# Altium integrated library Actel RTAX.IntLib: 140 symbols (part 13 of 42)
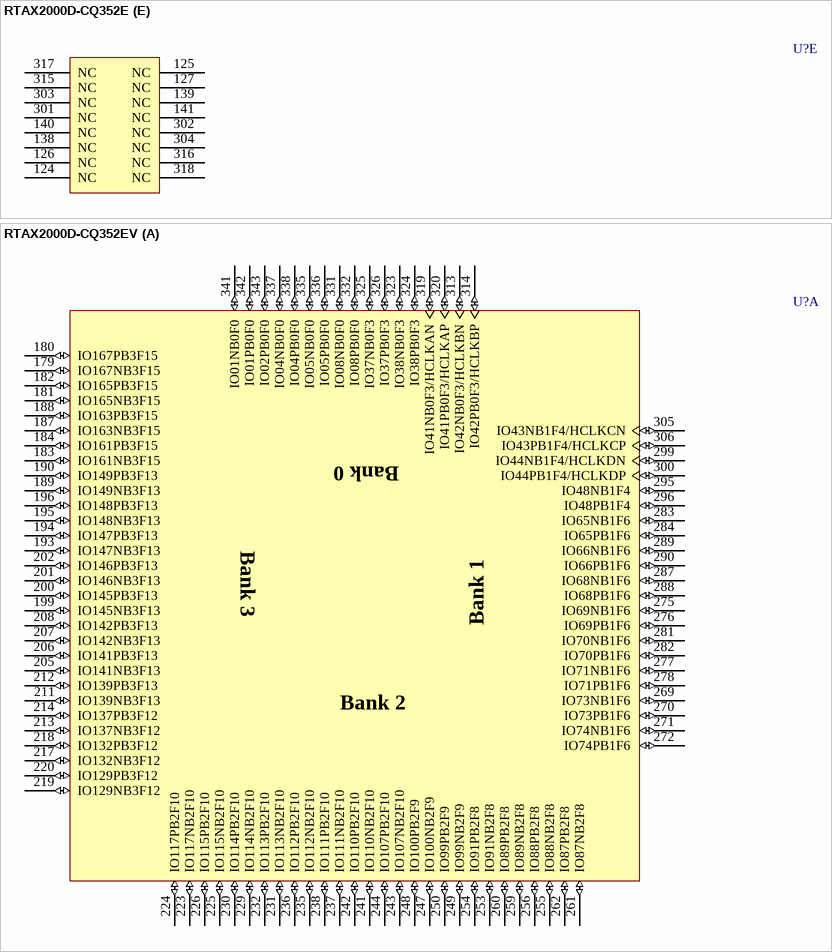
[diagram p411: symbols RTAX2000D-CQ352E to RTAX2000D-CQ352EV]

## RTAX2000D-CQ352E
designator U?
RTAX-DSP RadTolerant FPGA, 2 Million Equivalent System Gates, 352-Pin CQFP, Standard Speed Grade, E-Flow (Space Level Flow); DatasheetVersion: v0.2, Nov-2009; PackageVersion: ver11.2, Nov-2009; PackageReference: CQ352; PackageDescription: 352-Pin Ceramic Quad Flat Pack (CQFP), Cavity Up without Heat Sink; Code_JEDEC: MO-134-AE; ComponentLink1Description: Manufacturer URL; ComponentLink1URL: http://www.actel.com/; ComponentLink2Description: RTAX-S/SL RadTolerant Datasheet; ComponentLink2URL: http://www.actel.com/documents/RTAXS_DS.pdf; ComponentLink3Description: Package Mechanical Drawings; ComponentLink3URL: http://www.actel.com/documents/PckgMechDrwngs.pdf; ComponentLink4Description: RTAX-DSP Documents; ComponentLink4URL: http://www.actel.com/products/milaero/rtaxdsp/docs.aspx
footprint CQ352_N (CQFP, 352-Leads, Body 48x48mm; Pitch 0.5mm, Gullwing Leadform, IPC Medium Density)
footprint CQ352_L (CQFP, 352-Leads, Body 48x48mm; Pitch 0.5mm, Gullwing Leadform, IPC High Density)
footprint CQ352_M (CQFP, 352-Leads, Body 48x48mm; Pitch 0.5mm, Gullwing Leadform, IPC Low Density)
part A pins: 179 IO167NB3F15 (io), 180 IO167PB3F15 (io), 181 IO165NB3F15 (io), 182 IO165PB3F15 (io), 183 IO161NB3F15 (io), 184 IO161PB3F15 (io), 187 IO163NB3F15 (io), 188 IO163PB3F15 (io), 189 IO149NB3F13 (io), 190 IO149PB3F13 (io), 193 IO147NB3F13 (io), 194 IO147PB3F13 (io), 195 IO148NB3F13 (io), 196 IO148PB3F13 (io), 199 IO145NB3F13 (io), 200 IO145PB3F13 (io), 201 IO146NB3F13 (io), 202 IO146PB3F13 (io), 205 IO141NB3F13 (io), 206 IO141PB3F13 (io), 207 IO142NB3F13 (io), 208 IO142PB3F13 (io), 211 IO139NB3F13 (io), 212 IO139PB3F13 (io), 213 IO137NB3F12 (io), 214 IO137PB3F12 (io), 217 IO132NB3F12 (io), 218 IO132PB3F12 (io), 219 IO129NB3F12 (io), 220 IO129PB3F12 (io), 223 IO117NB2F10 (io), 224 IO117PB2F10 (io), 225 IO115NB2F10 (io), 226 IO115PB2F10 (io), 229 IO114NB2F10 (io), 230 IO114PB2F10 (io), 231 IO113NB2F10 (io), 232 IO113PB2F10 (io), 235 IO112NB2F10 (io), 236 IO112PB2F10 (io), 237 IO111NB2F10 (io), 238 IO111PB2F10 (io), 241 IO110NB2F10 (io), 242 IO110PB2F10 (io), 243 IO107NB2F10 (io), 244 IO107PB2F10 (io), 247 IO100NB2F9 (io), 248 IO100PB2F9 (io), 249 IO99NB2F9 (io), 250 IO99PB2F9 (io), 253 IO91NB2F8 (io), 254 IO91PB2F8 (io), 255 IO88NB2F8 (io), 256 IO88PB2F8 (io), 259 IO89NB2F8 (io), 260 IO89PB2F8 (io), 261 IO87NB2F8 (io), 262 IO87PB2F8 (io), 269 IO73NB1F6 (io), 270 IO73PB1F6 (io), 271 IO74NB1F6 (io), 272 IO74PB1F6 (io), 275 IO69NB1F6 (io), 276 IO69PB1F6 (io), 277 IO71NB1F6 (io), 278 IO71PB1F6 (io), 281 IO70NB1F6 (io), 282 IO70PB1F6 (io), 283 IO65NB1F6 (io), 284 IO65PB1F6 (io), 287 IO68NB1F6 (io), 288 IO68PB1F6 (io), 289 IO66NB1F6 (io), 290 IO66PB1F6 (io), 295 IO48NB1F4 (io), 296 IO48PB1F4 (io), 299 IO44NB1F4/HCLKDN (io), 300 IO44PB1F4/HCLKDP (io), 305 IO43NB1F4/HCLKCN (io), 306 IO43PB1F4/HCLKCP (io), 313 IO42NB0F3/HCLKBN (io), 314 IO42PB0F3/HCLKBP (io), 319 IO41NB0F3/HCLKAN (io), 320 IO41PB0F3/HCLKAP (io), 323 IO38NB0F3 (io), 324 IO38PB0F3 (io), 325 IO37NB0F3 (io), 326 IO37PB0F3 (io), 331 IO08NB0F0 (io), 332 IO08PB0F0 (io), 335 IO05NB0F0 (io), 336 IO05PB0F0 (io), 337 IO04NB0F0 (io), 338 IO04PB0F0 (io), 341 IO01NB0F0 (io), 342 IO01PB0F0 (io), 343 IO02PB0F0 (io)
part B pins: 4 IO341NB7F31 (io), 5 IO341PB7F31 (io), 6 IO338NB7F31 (io), 7 IO338PB7F31 (io), 10 IO334NB7F31 (io), 11 IO334PB7F31 (io), 12 IO335NB7F31 (io), 13 IO335PB7F31 (io), 16 IO320NB7F29 (io), 17 IO320PB7F29 (io), 18 IO318NB7F29 (io), 19 IO318PB7F29 (io), 22 IO316NB7F29 (io), 23 IO316PB7F29 (io), 24 IO317NB7F29 (io), 25 IO317PB7F29 (io), 28 IO312NB7F29 (io), 29 IO312PB7F29 (io), 30 IO315NB7F29 (io), 31 IO315PB7F29 (io), 34 IO310NB7F29 (io), 35 IO310PB7F29 (io), 36 IO311NB7F29 (io), 37 IO311PB7F29 (io), 40 IO303NB7F28 (io), 41 IO303PB7F28 (io), 42 IO300NB7F28 (io), 43 IO300PB7F28 (io), 46 IO296NB6F27 (io), 47 IO296PB6F27 (io), 48 IO294NB6F27 (io), 49 IO294PB6F27 (io), 52 IO287NB6F26 (io), 53 IO287PB6F26 (io), 54 IO286NB6F26 (io), 55 IO286PB6F26 (io), 58 IO285NB6F26 (io), 59 IO285PB6F26 (io), 60 IO284NB6F26 (io), 61 IO284PB6F26 (io), 64 IO282NB6F26 (io), 65 IO282PB6F26 (io), 66 IO281NB6F26 (io), 67 IO281PB6F26 (io), 70 IO280NB6F26 (io), 71 IO280PB6F26 (io), 72 IO279NB6F26 (io), 73 IO279PB6F26 (io), 76 IO265NB6F24 (io), 77 IO265PB6F24 (io), 78 IO262NB6F24 (io), 79 IO262PB6F24 (io), 82 IO261NB6F24 (io), 83 IO261PB6F24 (io), 84 IO258NB6F24 (io), 85 IO258PB6F24 (io), 86 IO257PB6F24 (io), 92 IO244NB5F22 (io), 93 IO244PB5F22 (io), 94 IO242NB5F22 (io), 95 IO242PB5F22 (io), 98 IO243NB5F22 (io), 99 IO243PB5F22 (io), 100 IO240NB5F22 (io), 101 IO240PB5F22 (io), 104 IO238NB5F22 (io), 105 IO238PB5F22 (io), 106 IO239NB5F22 (io), 107 IO239PB5F22 (io), 110 IO236NB5F22 (io), 111 IO236PB5F22 (io), 112 IO237NB5F22 (io), 113 IO237PB5F22 (io), 118 IO217NB5F20 (io), 119 IO217PB5F20 (io), 122 IO215NB5F20/CLKHN (io), 123 IO215PB5F20/CLKHP (io), 128 IO214NB5F20/CLKGN (io), 129 IO214PB5F20/CLKGP (io), 136 IO213NB4F19/CLKFN (io), 137 IO213PB4F19/CLKFP (io), 142 IO212NB4F19/CLKEN (io), 143 IO212PB4F19/CLKEP (io), 146 IO207NB4F19 (io), 147 IO207PB4F19 (io), 152 IO192NB4F17 (io), 153 IO192PB4F17 (io), 154 IO191NB4F17 (io), 155 IO191PB4F17 (io), 158 IO190NB4F17 (io), 159 IO190PB4F17 (io), 160 IO185NB4F17 (io), 161 IO185PB4F17 (io), 164 IO184NB4F17 (io), 165 IO184PB4F17 (io), 166 IO183NB4F17 (io), 167 IO183PB4F17 (io), 170 IO182NB4F17 (io), 171 IO182PB4F17 (io), 172 IO181NB4F17 (io), 173 IO181PB4F17 (io)
part C pins: 2 VCCDA (power), 3 VCCA (power), 8 VCCIB7 (power), 14 VCCA (power), 20 VCCIB7 (power), 26 VCCIB7 (power), 32 VCCA (power), 38 VCCIB7 (power), 44 VCCDA (power), 50 VCCIB6 (power), 56 VCCA (power), 62 VCCIB6 (power), 68 VCCIB6 (power), 74 VCCA (power), 80 VCCIB6 (power), 87 VCCA (power), 90 VCCDA (power), 91 VCCDA (power), 96 VCCIB5 (power), 102 VCCA (power), 108 VCCIB5 (power), 114 VCCA (power), 116 VCCDA (power), 117 VCCDA (power), 120 VCCIB5 (power), 130 VCCDA (power), 131 VCCDA (power), 132 VCCDA (power), 134 PRD (out), 135 PRC (out), 144 VCCIB4 (power), 148 VCCDA (power), 149 VCCDA (power), 150 VCCA (power), 156 VCCIB4 (power), 162 VCCA (power), 168 VCCIB4 (power), 174 VCCDA (power), 175 VCCA (power), 178 VCCDA (power), 185 VCCIB3 (power), 191 VCCA (power), 197 VCCIB3 (power), 203 VCCIB3 (power), 209 VCCA (power), 215 VCCIB3 (power), 221 VCCDA (power), 227 VCCIB2 (power), 233 VCCA (power), 239 VCCIB2 (power), 245 VCCIB2 (power), 251 VCCA (power), 257 VCCIB2 (power), 263 VCCA (power), 266 VCCDA (power), 267 VPUMP (power), 268 VCCDA (power), 273 VCCIB1 (power), 279 VCCA (power), 285 VCCIB1 (power), 291 VCCA (power), 293 VCCDA (power), 294 VCCDA (power), 297 VCCIB1 (power), 307 VCCDA (power), 308 VCCDA (power), 309 VCCDA (power), 311 PRB (out), 312 PRA (out), 321 VCCIB0 (power), 327 VCCDA (power), 328 VCCDA (power), 329 VCCA (power), 333 VCCIB0 (power), 339 VCCA (power), 344 VCCIB0 (power), 346 VCCDA (power), 347 TDO (hiz), 348 TDI (in), 349 TCK (in), 350 TMS (in), 351 ~{TRST} (in)
part D pins: 1 GND (power), 9 GND (power), 15 GND (power), 21 GND (power), 27 GND (power), 33 GND (power), 39 GND (power), 45 GND (power), 51 GND (power), 57 GND (power), 63 GND (power), 69 GND (power), 75 GND (power), 81 GND (power), 88 GND (power), 89 GND (power), 97 GND (power), 103 GND (power), 109 GND (power), 115 GND (power), 121 GND (power), 133 GND (power), 145 GND (power), 151 GND (power), 157 GND (power), 163 GND (power), 169 GND (power), 176 GND (power), 177 GND (power), 186 GND (power), 192 GND (power), 198 GND (power), 204 GND (power), 210 GND (power), 216 GND (power), 222 GND (power), 228 GND (power), 234 GND (power), 240 GND (power), 246 GND (power), 252 GND (power), 258 GND (power), 264 GND (power), 265 GND (power), 274 GND (power), 280 GND (power), 286 GND (power), 292 GND (power), 298 GND (power), 310 GND (power), 322 GND (power), 330 GND (power), 334 GND (power), 340 GND (power), 345 GND (power), 352 GND (power)
part E pins: 124 NC, 125 NC, 126 NC, 127 NC, 138 NC, 139 NC, 140 NC, 141 NC, 301 NC, 302 NC, 303 NC, 304 NC, 315 NC, 316 NC, 317 NC, 318 NC
part A text: Bank 0; Bank 3; Bank 1; Bank 2
part B text: Bank 4; Bank 7; Bank 5; Bank 6

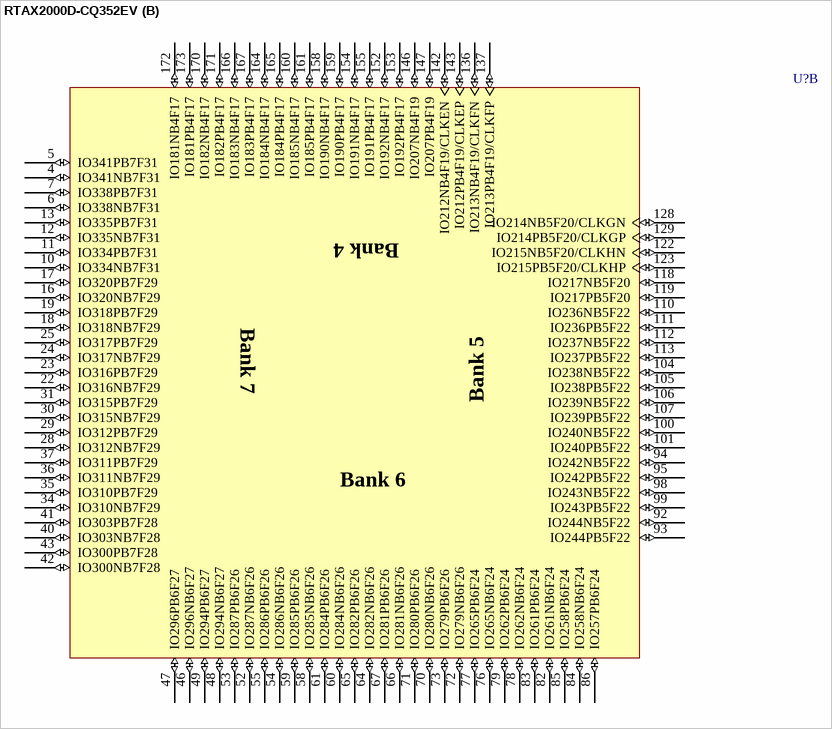
[diagram p127: symbol RTAX2000D-CQ352EV]

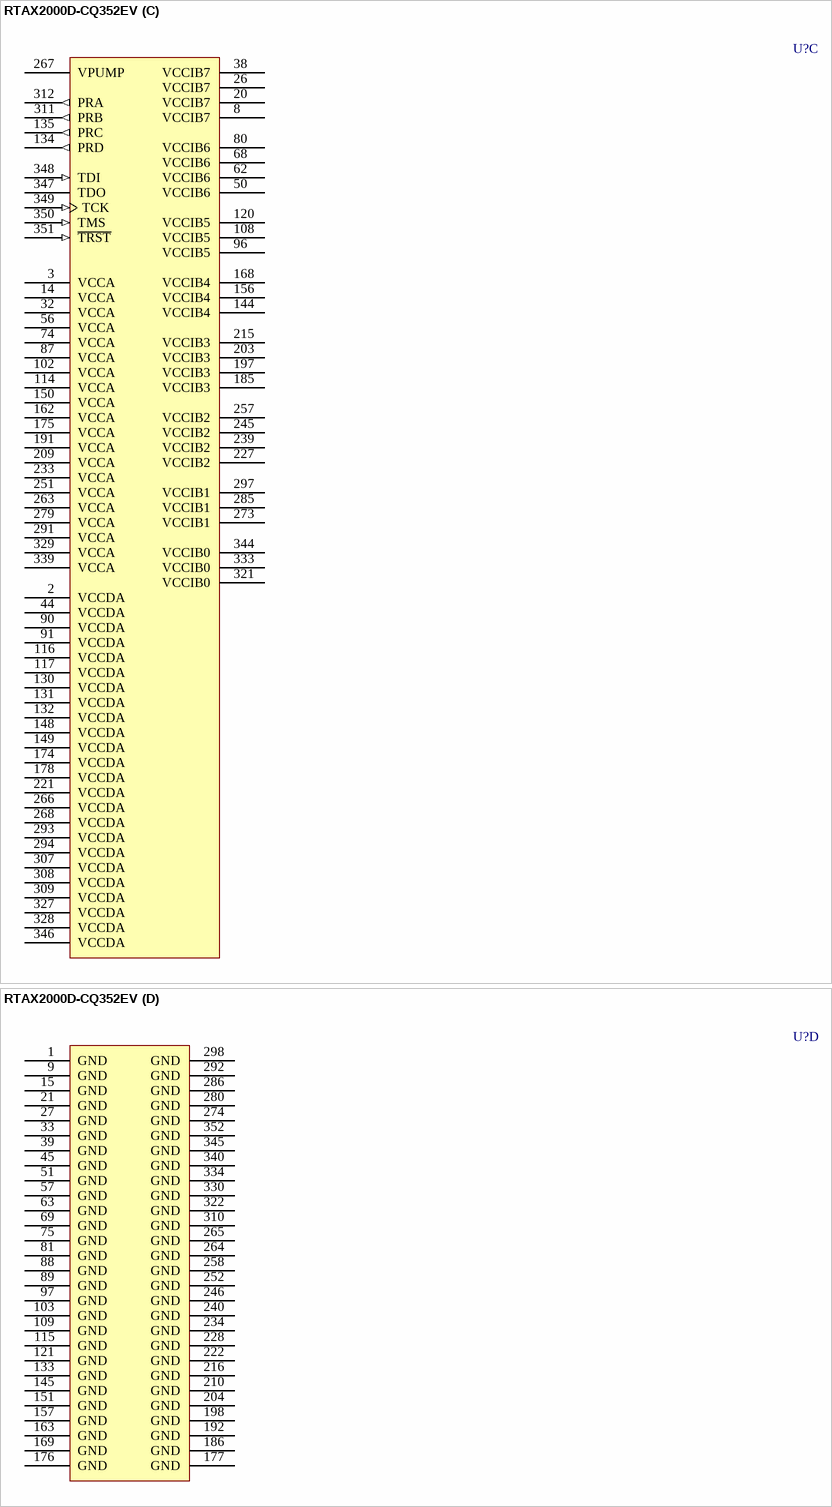
[diagram p128: symbol RTAX2000D-CQ352EV]

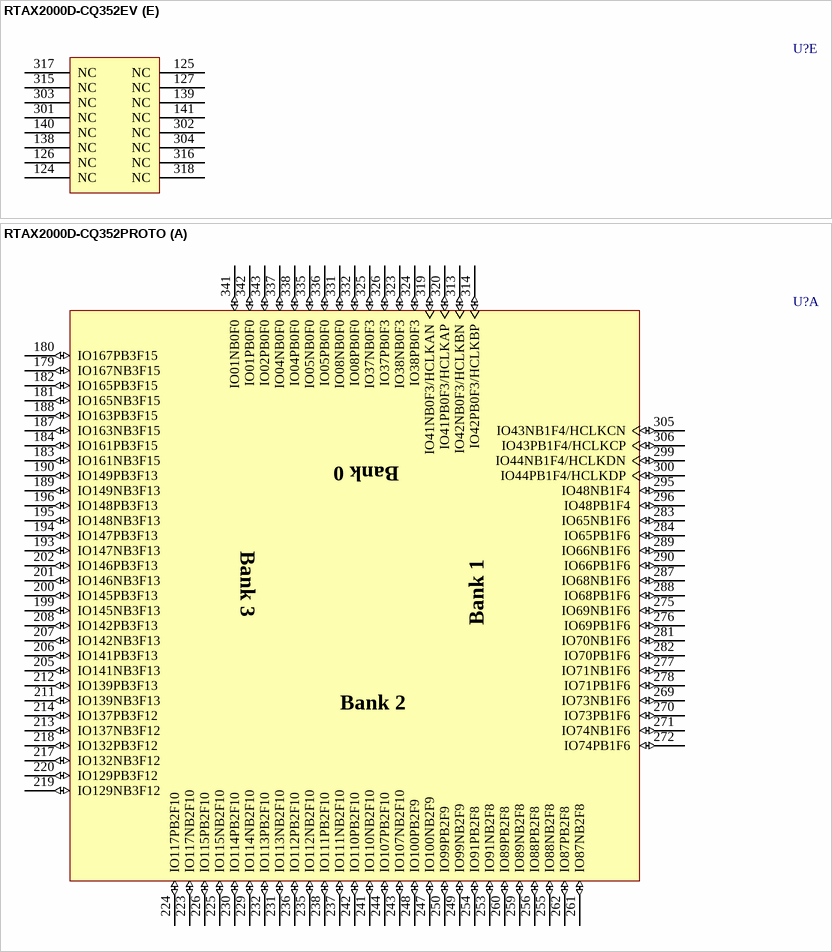
[diagram p129: symbols RTAX2000D-CQ352EV to RTAX2000D-CQ352PROTO]

## RTAX2000D-CQ352EV
designator U?
RTAX-DSP RadTolerant FPGA, 2 Million Equivalent System Gates, 352-Pin CQFP, Standard Speed Grade, Class V; DatasheetVersion: v0.2, Nov-2009; PackageVersion: ver11.2, Nov-2009; PackageReference: CQ352; PackageDescription: 352-Pin Ceramic Quad Flat Pack (CQFP), Cavity Up without Heat Sink; Code_JEDEC: MO-134-AE; ComponentLink1Description: Manufacturer URL; ComponentLink1URL: http://www.actel.com/; ComponentLink2Description: RTAX-S/SL RadTolerant Datasheet; ComponentLink2URL: http://www.actel.com/documents/RTAXS_DS.pdf; ComponentLink3Description: Package Mechanical Drawings; ComponentLink3URL: http://www.actel.com/documents/PckgMechDrwngs.pdf; ComponentLink4Description: RTAX-DSP Documents; ComponentLink4URL: http://www.actel.com/products/milaero/rtaxdsp/docs.aspx
footprint CQ352_N (CQFP, 352-Leads, Body 48x48mm; Pitch 0.5mm, Gullwing Leadform, IPC Medium Density)
footprint CQ352_L (CQFP, 352-Leads, Body 48x48mm; Pitch 0.5mm, Gullwing Leadform, IPC High Density)
footprint CQ352_M (CQFP, 352-Leads, Body 48x48mm; Pitch 0.5mm, Gullwing Leadform, IPC Low Density)
part A pins: 179 IO167NB3F15 (io), 180 IO167PB3F15 (io), 181 IO165NB3F15 (io), 182 IO165PB3F15 (io), 183 IO161NB3F15 (io), 184 IO161PB3F15 (io), 187 IO163NB3F15 (io), 188 IO163PB3F15 (io), 189 IO149NB3F13 (io), 190 IO149PB3F13 (io), 193 IO147NB3F13 (io), 194 IO147PB3F13 (io), 195 IO148NB3F13 (io), 196 IO148PB3F13 (io), 199 IO145NB3F13 (io), 200 IO145PB3F13 (io), 201 IO146NB3F13 (io), 202 IO146PB3F13 (io), 205 IO141NB3F13 (io), 206 IO141PB3F13 (io), 207 IO142NB3F13 (io), 208 IO142PB3F13 (io), 211 IO139NB3F13 (io), 212 IO139PB3F13 (io), 213 IO137NB3F12 (io), 214 IO137PB3F12 (io), 217 IO132NB3F12 (io), 218 IO132PB3F12 (io), 219 IO129NB3F12 (io), 220 IO129PB3F12 (io), 223 IO117NB2F10 (io), 224 IO117PB2F10 (io), 225 IO115NB2F10 (io), 226 IO115PB2F10 (io), 229 IO114NB2F10 (io), 230 IO114PB2F10 (io), 231 IO113NB2F10 (io), 232 IO113PB2F10 (io), 235 IO112NB2F10 (io), 236 IO112PB2F10 (io), 237 IO111NB2F10 (io), 238 IO111PB2F10 (io), 241 IO110NB2F10 (io), 242 IO110PB2F10 (io), 243 IO107NB2F10 (io), 244 IO107PB2F10 (io), 247 IO100NB2F9 (io), 248 IO100PB2F9 (io), 249 IO99NB2F9 (io), 250 IO99PB2F9 (io), 253 IO91NB2F8 (io), 254 IO91PB2F8 (io), 255 IO88NB2F8 (io), 256 IO88PB2F8 (io), 259 IO89NB2F8 (io), 260 IO89PB2F8 (io), 261 IO87NB2F8 (io), 262 IO87PB2F8 (io), 269 IO73NB1F6 (io), 270 IO73PB1F6 (io), 271 IO74NB1F6 (io), 272 IO74PB1F6 (io), 275 IO69NB1F6 (io), 276 IO69PB1F6 (io), 277 IO71NB1F6 (io), 278 IO71PB1F6 (io), 281 IO70NB1F6 (io), 282 IO70PB1F6 (io), 283 IO65NB1F6 (io), 284 IO65PB1F6 (io), 287 IO68NB1F6 (io), 288 IO68PB1F6 (io), 289 IO66NB1F6 (io), 290 IO66PB1F6 (io), 295 IO48NB1F4 (io), 296 IO48PB1F4 (io), 299 IO44NB1F4/HCLKDN (io), 300 IO44PB1F4/HCLKDP (io), 305 IO43NB1F4/HCLKCN (io), 306 IO43PB1F4/HCLKCP (io), 313 IO42NB0F3/HCLKBN (io), 314 IO42PB0F3/HCLKBP (io), 319 IO41NB0F3/HCLKAN (io), 320 IO41PB0F3/HCLKAP (io), 323 IO38NB0F3 (io), 324 IO38PB0F3 (io), 325 IO37NB0F3 (io), 326 IO37PB0F3 (io), 331 IO08NB0F0 (io), 332 IO08PB0F0 (io), 335 IO05NB0F0 (io), 336 IO05PB0F0 (io), 337 IO04NB0F0 (io), 338 IO04PB0F0 (io), 341 IO01NB0F0 (io), 342 IO01PB0F0 (io), 343 IO02PB0F0 (io)
part B pins: 4 IO341NB7F31 (io), 5 IO341PB7F31 (io), 6 IO338NB7F31 (io), 7 IO338PB7F31 (io), 10 IO334NB7F31 (io), 11 IO334PB7F31 (io), 12 IO335NB7F31 (io), 13 IO335PB7F31 (io), 16 IO320NB7F29 (io), 17 IO320PB7F29 (io), 18 IO318NB7F29 (io), 19 IO318PB7F29 (io), 22 IO316NB7F29 (io), 23 IO316PB7F29 (io), 24 IO317NB7F29 (io), 25 IO317PB7F29 (io), 28 IO312NB7F29 (io), 29 IO312PB7F29 (io), 30 IO315NB7F29 (io), 31 IO315PB7F29 (io), 34 IO310NB7F29 (io), 35 IO310PB7F29 (io), 36 IO311NB7F29 (io), 37 IO311PB7F29 (io), 40 IO303NB7F28 (io), 41 IO303PB7F28 (io), 42 IO300NB7F28 (io), 43 IO300PB7F28 (io), 46 IO296NB6F27 (io), 47 IO296PB6F27 (io), 48 IO294NB6F27 (io), 49 IO294PB6F27 (io), 52 IO287NB6F26 (io), 53 IO287PB6F26 (io), 54 IO286NB6F26 (io), 55 IO286PB6F26 (io), 58 IO285NB6F26 (io), 59 IO285PB6F26 (io), 60 IO284NB6F26 (io), 61 IO284PB6F26 (io), 64 IO282NB6F26 (io), 65 IO282PB6F26 (io), 66 IO281NB6F26 (io), 67 IO281PB6F26 (io), 70 IO280NB6F26 (io), 71 IO280PB6F26 (io), 72 IO279NB6F26 (io), 73 IO279PB6F26 (io), 76 IO265NB6F24 (io), 77 IO265PB6F24 (io), 78 IO262NB6F24 (io), 79 IO262PB6F24 (io), 82 IO261NB6F24 (io), 83 IO261PB6F24 (io), 84 IO258NB6F24 (io), 85 IO258PB6F24 (io), 86 IO257PB6F24 (io), 92 IO244NB5F22 (io), 93 IO244PB5F22 (io), 94 IO242NB5F22 (io), 95 IO242PB5F22 (io), 98 IO243NB5F22 (io), 99 IO243PB5F22 (io), 100 IO240NB5F22 (io), 101 IO240PB5F22 (io), 104 IO238NB5F22 (io), 105 IO238PB5F22 (io), 106 IO239NB5F22 (io), 107 IO239PB5F22 (io), 110 IO236NB5F22 (io), 111 IO236PB5F22 (io), 112 IO237NB5F22 (io), 113 IO237PB5F22 (io), 118 IO217NB5F20 (io), 119 IO217PB5F20 (io), 122 IO215NB5F20/CLKHN (io), 123 IO215PB5F20/CLKHP (io), 128 IO214NB5F20/CLKGN (io), 129 IO214PB5F20/CLKGP (io), 136 IO213NB4F19/CLKFN (io), 137 IO213PB4F19/CLKFP (io), 142 IO212NB4F19/CLKEN (io), 143 IO212PB4F19/CLKEP (io), 146 IO207NB4F19 (io), 147 IO207PB4F19 (io), 152 IO192NB4F17 (io), 153 IO192PB4F17 (io), 154 IO191NB4F17 (io), 155 IO191PB4F17 (io), 158 IO190NB4F17 (io), 159 IO190PB4F17 (io), 160 IO185NB4F17 (io), 161 IO185PB4F17 (io), 164 IO184NB4F17 (io), 165 IO184PB4F17 (io), 166 IO183NB4F17 (io), 167 IO183PB4F17 (io), 170 IO182NB4F17 (io), 171 IO182PB4F17 (io), 172 IO181NB4F17 (io), 173 IO181PB4F17 (io)
part C pins: 2 VCCDA (power), 3 VCCA (power), 8 VCCIB7 (power), 14 VCCA (power), 20 VCCIB7 (power), 26 VCCIB7 (power), 32 VCCA (power), 38 VCCIB7 (power), 44 VCCDA (power), 50 VCCIB6 (power), 56 VCCA (power), 62 VCCIB6 (power), 68 VCCIB6 (power), 74 VCCA (power), 80 VCCIB6 (power), 87 VCCA (power), 90 VCCDA (power), 91 VCCDA (power), 96 VCCIB5 (power), 102 VCCA (power), 108 VCCIB5 (power), 114 VCCA (power), 116 VCCDA (power), 117 VCCDA (power), 120 VCCIB5 (power), 130 VCCDA (power), 131 VCCDA (power), 132 VCCDA (power), 134 PRD (out), 135 PRC (out), 144 VCCIB4 (power), 148 VCCDA (power), 149 VCCDA (power), 150 VCCA (power), 156 VCCIB4 (power), 162 VCCA (power), 168 VCCIB4 (power), 174 VCCDA (power), 175 VCCA (power), 178 VCCDA (power), 185 VCCIB3 (power), 191 VCCA (power), 197 VCCIB3 (power), 203 VCCIB3 (power), 209 VCCA (power), 215 VCCIB3 (power), 221 VCCDA (power), 227 VCCIB2 (power), 233 VCCA (power), 239 VCCIB2 (power), 245 VCCIB2 (power), 251 VCCA (power), 257 VCCIB2 (power), 263 VCCA (power), 266 VCCDA (power), 267 VPUMP (power), 268 VCCDA (power), 273 VCCIB1 (power), 279 VCCA (power), 285 VCCIB1 (power), 291 VCCA (power), 293 VCCDA (power), 294 VCCDA (power), 297 VCCIB1 (power), 307 VCCDA (power), 308 VCCDA (power), 309 VCCDA (power), 311 PRB (out), 312 PRA (out), 321 VCCIB0 (power), 327 VCCDA (power), 328 VCCDA (power), 329 VCCA (power), 333 VCCIB0 (power), 339 VCCA (power), 344 VCCIB0 (power), 346 VCCDA (power), 347 TDO (hiz), 348 TDI (in), 349 TCK (in), 350 TMS (in), 351 ~{TRST} (in)
part D pins: 1 GND (power), 9 GND (power), 15 GND (power), 21 GND (power), 27 GND (power), 33 GND (power), 39 GND (power), 45 GND (power), 51 GND (power), 57 GND (power), 63 GND (power), 69 GND (power), 75 GND (power), 81 GND (power), 88 GND (power), 89 GND (power), 97 GND (power), 103 GND (power), 109 GND (power), 115 GND (power), 121 GND (power), 133 GND (power), 145 GND (power), 151 GND (power), 157 GND (power), 163 GND (power), 169 GND (power), 176 GND (power), 177 GND (power), 186 GND (power), 192 GND (power), 198 GND (power), 204 GND (power), 210 GND (power), 216 GND (power), 222 GND (power), 228 GND (power), 234 GND (power), 240 GND (power), 246 GND (power), 252 GND (power), 258 GND (power), 264 GND (power), 265 GND (power), 274 GND (power), 280 GND (power), 286 GND (power), 292 GND (power), 298 GND (power), 310 GND (power), 322 GND (power), 330 GND (power), 334 GND (power), 340 GND (power), 345 GND (power), 352 GND (power)
part E pins: 124 NC, 125 NC, 126 NC, 127 NC, 138 NC, 139 NC, 140 NC, 141 NC, 301 NC, 302 NC, 303 NC, 304 NC, 315 NC, 316 NC, 317 NC, 318 NC
part A text: Bank 0; Bank 3; Bank 1; Bank 2
part B text: Bank 4; Bank 7; Bank 5; Bank 6

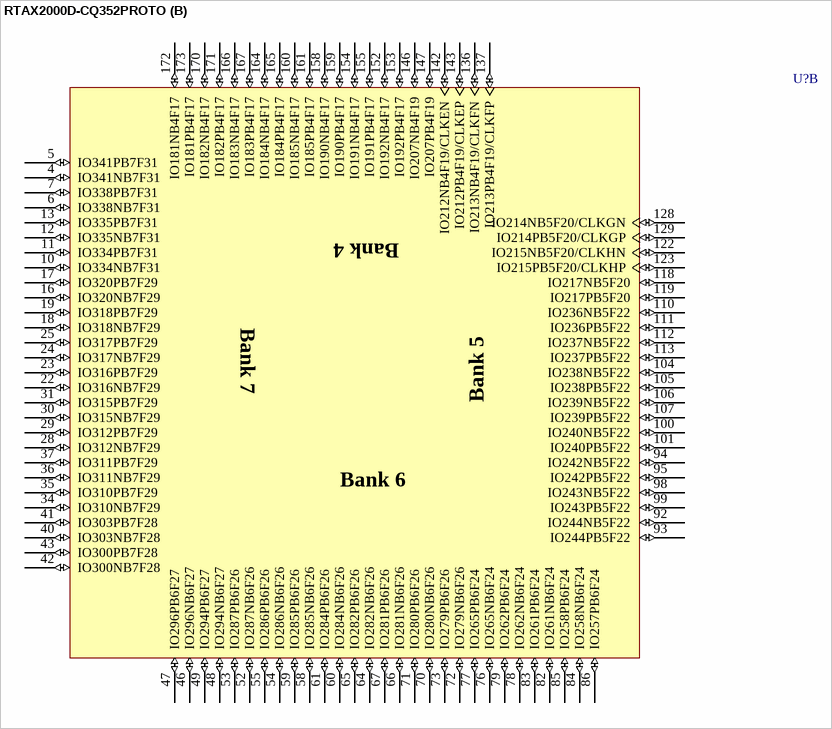
[diagram p130: symbol RTAX2000D-CQ352PROTO]

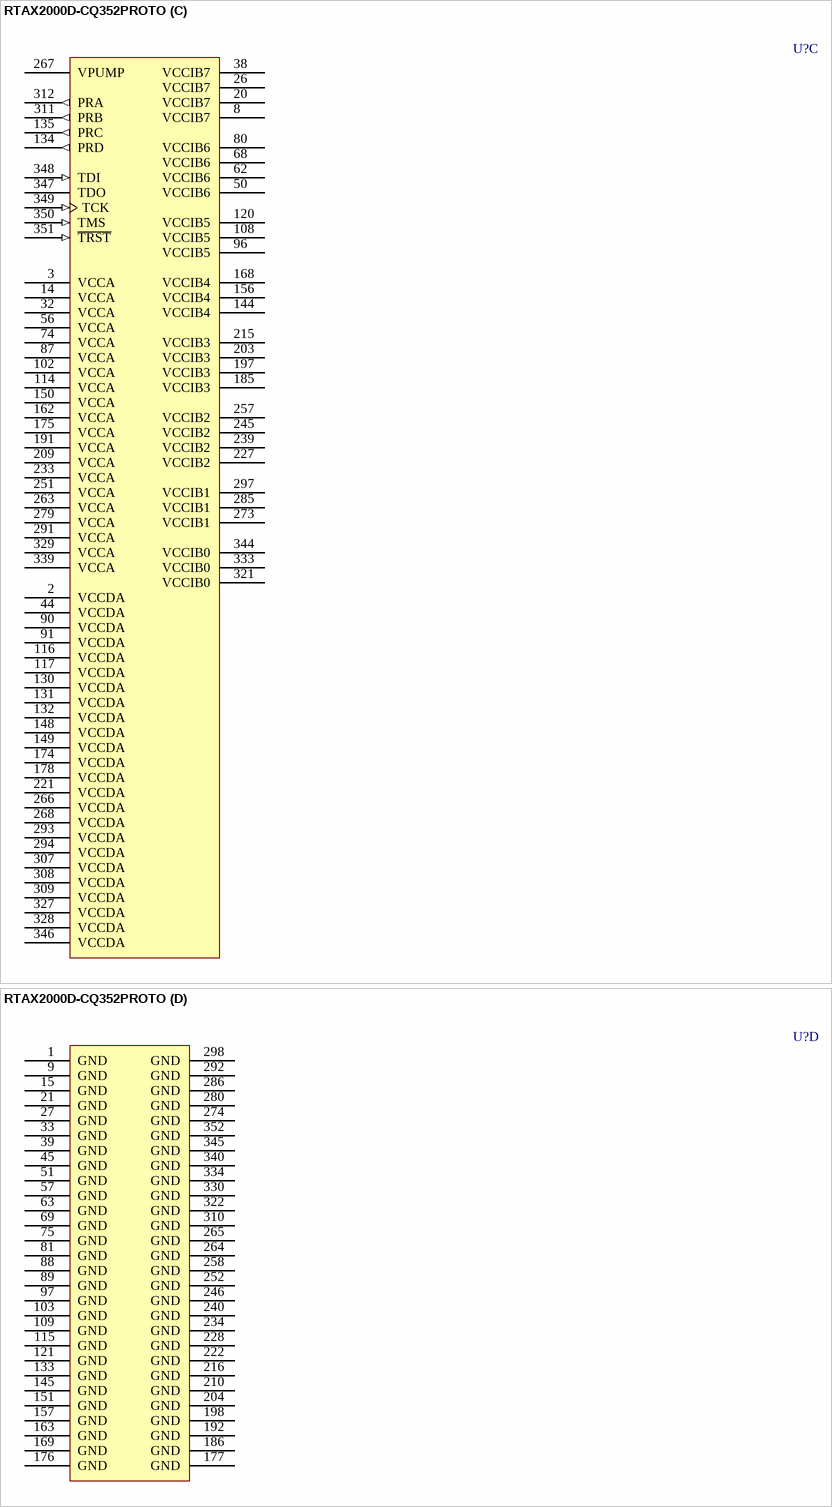
[diagram p131: symbol RTAX2000D-CQ352PROTO]

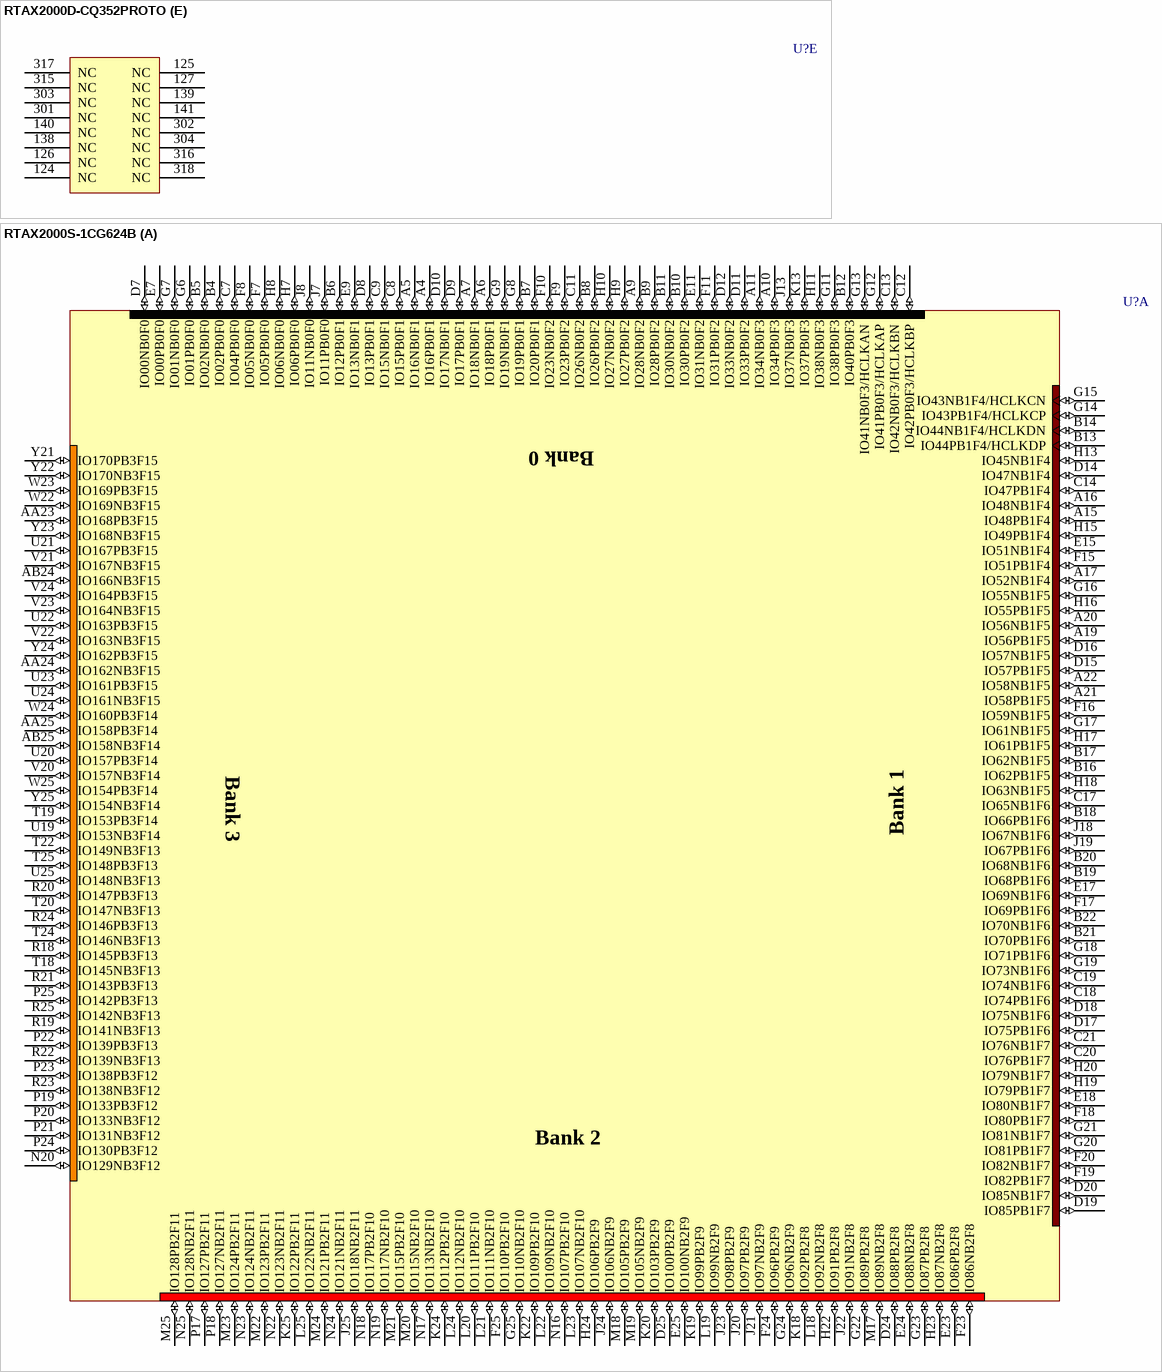
[diagram p132: symbols RTAX2000D-CQ352PROTO to RTAX2000S-1CG624B]

## RTAX2000D-CQ352PROTO
designator U?
RTAX-DSP RadTolerant FPGA, 2 Million Equivalent System Gates, 352-Pin CQFP, Standard Speed Grade, Prototype Unit; DatasheetVersion: v0.2, Nov-2009; PackageVersion: ver11.2, Nov-2009; PackageReference: CQ352; PackageDescription: 352-Pin Ceramic Quad Flat Pack (CQFP), Cavity Up without Heat Sink; Code_JEDEC: MO-134-AE; ComponentLink1Description: Manufacturer URL; ComponentLink1URL: http://www.actel.com/; ComponentLink2Description: RTAX-S/SL RadTolerant Datasheet; ComponentLink2URL: http://www.actel.com/documents/RTAXS_DS.pdf; ComponentLink3Description: Package Mechanical Drawings; ComponentLink3URL: http://www.actel.com/documents/PckgMechDrwngs.pdf; ComponentLink4Description: RTAX-DSP Documents; ComponentLink4URL: http://www.actel.com/products/milaero/rtaxdsp/docs.aspx
footprint CQ352_N (CQFP, 352-Leads, Body 48x48mm; Pitch 0.5mm, Gullwing Leadform, IPC Medium Density)
footprint CQ352_L (CQFP, 352-Leads, Body 48x48mm; Pitch 0.5mm, Gullwing Leadform, IPC High Density)
footprint CQ352_M (CQFP, 352-Leads, Body 48x48mm; Pitch 0.5mm, Gullwing Leadform, IPC Low Density)
part A pins: 179 IO167NB3F15 (io), 180 IO167PB3F15 (io), 181 IO165NB3F15 (io), 182 IO165PB3F15 (io), 183 IO161NB3F15 (io), 184 IO161PB3F15 (io), 187 IO163NB3F15 (io), 188 IO163PB3F15 (io), 189 IO149NB3F13 (io), 190 IO149PB3F13 (io), 193 IO147NB3F13 (io), 194 IO147PB3F13 (io), 195 IO148NB3F13 (io), 196 IO148PB3F13 (io), 199 IO145NB3F13 (io), 200 IO145PB3F13 (io), 201 IO146NB3F13 (io), 202 IO146PB3F13 (io), 205 IO141NB3F13 (io), 206 IO141PB3F13 (io), 207 IO142NB3F13 (io), 208 IO142PB3F13 (io), 211 IO139NB3F13 (io), 212 IO139PB3F13 (io), 213 IO137NB3F12 (io), 214 IO137PB3F12 (io), 217 IO132NB3F12 (io), 218 IO132PB3F12 (io), 219 IO129NB3F12 (io), 220 IO129PB3F12 (io), 223 IO117NB2F10 (io), 224 IO117PB2F10 (io), 225 IO115NB2F10 (io), 226 IO115PB2F10 (io), 229 IO114NB2F10 (io), 230 IO114PB2F10 (io), 231 IO113NB2F10 (io), 232 IO113PB2F10 (io), 235 IO112NB2F10 (io), 236 IO112PB2F10 (io), 237 IO111NB2F10 (io), 238 IO111PB2F10 (io), 241 IO110NB2F10 (io), 242 IO110PB2F10 (io), 243 IO107NB2F10 (io), 244 IO107PB2F10 (io), 247 IO100NB2F9 (io), 248 IO100PB2F9 (io), 249 IO99NB2F9 (io), 250 IO99PB2F9 (io), 253 IO91NB2F8 (io), 254 IO91PB2F8 (io), 255 IO88NB2F8 (io), 256 IO88PB2F8 (io), 259 IO89NB2F8 (io), 260 IO89PB2F8 (io), 261 IO87NB2F8 (io), 262 IO87PB2F8 (io), 269 IO73NB1F6 (io), 270 IO73PB1F6 (io), 271 IO74NB1F6 (io), 272 IO74PB1F6 (io), 275 IO69NB1F6 (io), 276 IO69PB1F6 (io), 277 IO71NB1F6 (io), 278 IO71PB1F6 (io), 281 IO70NB1F6 (io), 282 IO70PB1F6 (io), 283 IO65NB1F6 (io), 284 IO65PB1F6 (io), 287 IO68NB1F6 (io), 288 IO68PB1F6 (io), 289 IO66NB1F6 (io), 290 IO66PB1F6 (io), 295 IO48NB1F4 (io), 296 IO48PB1F4 (io), 299 IO44NB1F4/HCLKDN (io), 300 IO44PB1F4/HCLKDP (io), 305 IO43NB1F4/HCLKCN (io), 306 IO43PB1F4/HCLKCP (io), 313 IO42NB0F3/HCLKBN (io), 314 IO42PB0F3/HCLKBP (io), 319 IO41NB0F3/HCLKAN (io), 320 IO41PB0F3/HCLKAP (io), 323 IO38NB0F3 (io), 324 IO38PB0F3 (io), 325 IO37NB0F3 (io), 326 IO37PB0F3 (io), 331 IO08NB0F0 (io), 332 IO08PB0F0 (io), 335 IO05NB0F0 (io), 336 IO05PB0F0 (io), 337 IO04NB0F0 (io), 338 IO04PB0F0 (io), 341 IO01NB0F0 (io), 342 IO01PB0F0 (io), 343 IO02PB0F0 (io)
part B pins: 4 IO341NB7F31 (io), 5 IO341PB7F31 (io), 6 IO338NB7F31 (io), 7 IO338PB7F31 (io), 10 IO334NB7F31 (io), 11 IO334PB7F31 (io), 12 IO335NB7F31 (io), 13 IO335PB7F31 (io), 16 IO320NB7F29 (io), 17 IO320PB7F29 (io), 18 IO318NB7F29 (io), 19 IO318PB7F29 (io), 22 IO316NB7F29 (io), 23 IO316PB7F29 (io), 24 IO317NB7F29 (io), 25 IO317PB7F29 (io), 28 IO312NB7F29 (io), 29 IO312PB7F29 (io), 30 IO315NB7F29 (io), 31 IO315PB7F29 (io), 34 IO310NB7F29 (io), 35 IO310PB7F29 (io), 36 IO311NB7F29 (io), 37 IO311PB7F29 (io), 40 IO303NB7F28 (io), 41 IO303PB7F28 (io), 42 IO300NB7F28 (io), 43 IO300PB7F28 (io), 46 IO296NB6F27 (io), 47 IO296PB6F27 (io), 48 IO294NB6F27 (io), 49 IO294PB6F27 (io), 52 IO287NB6F26 (io), 53 IO287PB6F26 (io), 54 IO286NB6F26 (io), 55 IO286PB6F26 (io), 58 IO285NB6F26 (io), 59 IO285PB6F26 (io), 60 IO284NB6F26 (io), 61 IO284PB6F26 (io), 64 IO282NB6F26 (io), 65 IO282PB6F26 (io), 66 IO281NB6F26 (io), 67 IO281PB6F26 (io), 70 IO280NB6F26 (io), 71 IO280PB6F26 (io), 72 IO279NB6F26 (io), 73 IO279PB6F26 (io), 76 IO265NB6F24 (io), 77 IO265PB6F24 (io), 78 IO262NB6F24 (io), 79 IO262PB6F24 (io), 82 IO261NB6F24 (io), 83 IO261PB6F24 (io), 84 IO258NB6F24 (io), 85 IO258PB6F24 (io), 86 IO257PB6F24 (io), 92 IO244NB5F22 (io), 93 IO244PB5F22 (io), 94 IO242NB5F22 (io), 95 IO242PB5F22 (io), 98 IO243NB5F22 (io), 99 IO243PB5F22 (io), 100 IO240NB5F22 (io), 101 IO240PB5F22 (io), 104 IO238NB5F22 (io), 105 IO238PB5F22 (io), 106 IO239NB5F22 (io), 107 IO239PB5F22 (io), 110 IO236NB5F22 (io), 111 IO236PB5F22 (io), 112 IO237NB5F22 (io), 113 IO237PB5F22 (io), 118 IO217NB5F20 (io), 119 IO217PB5F20 (io), 122 IO215NB5F20/CLKHN (io), 123 IO215PB5F20/CLKHP (io), 128 IO214NB5F20/CLKGN (io), 129 IO214PB5F20/CLKGP (io), 136 IO213NB4F19/CLKFN (io), 137 IO213PB4F19/CLKFP (io), 142 IO212NB4F19/CLKEN (io), 143 IO212PB4F19/CLKEP (io), 146 IO207NB4F19 (io), 147 IO207PB4F19 (io), 152 IO192NB4F17 (io), 153 IO192PB4F17 (io), 154 IO191NB4F17 (io), 155 IO191PB4F17 (io), 158 IO190NB4F17 (io), 159 IO190PB4F17 (io), 160 IO185NB4F17 (io), 161 IO185PB4F17 (io), 164 IO184NB4F17 (io), 165 IO184PB4F17 (io), 166 IO183NB4F17 (io), 167 IO183PB4F17 (io), 170 IO182NB4F17 (io), 171 IO182PB4F17 (io), 172 IO181NB4F17 (io), 173 IO181PB4F17 (io)
part C pins: 2 VCCDA (power), 3 VCCA (power), 8 VCCIB7 (power), 14 VCCA (power), 20 VCCIB7 (power), 26 VCCIB7 (power), 32 VCCA (power), 38 VCCIB7 (power), 44 VCCDA (power), 50 VCCIB6 (power), 56 VCCA (power), 62 VCCIB6 (power), 68 VCCIB6 (power), 74 VCCA (power), 80 VCCIB6 (power), 87 VCCA (power), 90 VCCDA (power), 91 VCCDA (power), 96 VCCIB5 (power), 102 VCCA (power), 108 VCCIB5 (power), 114 VCCA (power), 116 VCCDA (power), 117 VCCDA (power), 120 VCCIB5 (power), 130 VCCDA (power), 131 VCCDA (power), 132 VCCDA (power), 134 PRD (out), 135 PRC (out), 144 VCCIB4 (power), 148 VCCDA (power), 149 VCCDA (power), 150 VCCA (power), 156 VCCIB4 (power), 162 VCCA (power), 168 VCCIB4 (power), 174 VCCDA (power), 175 VCCA (power), 178 VCCDA (power), 185 VCCIB3 (power), 191 VCCA (power), 197 VCCIB3 (power), 203 VCCIB3 (power), 209 VCCA (power), 215 VCCIB3 (power), 221 VCCDA (power), 227 VCCIB2 (power), 233 VCCA (power), 239 VCCIB2 (power), 245 VCCIB2 (power), 251 VCCA (power), 257 VCCIB2 (power), 263 VCCA (power), 266 VCCDA (power), 267 VPUMP (power), 268 VCCDA (power), 273 VCCIB1 (power), 279 VCCA (power), 285 VCCIB1 (power), 291 VCCA (power), 293 VCCDA (power), 294 VCCDA (power), 297 VCCIB1 (power), 307 VCCDA (power), 308 VCCDA (power), 309 VCCDA (power), 311 PRB (out), 312 PRA (out), 321 VCCIB0 (power), 327 VCCDA (power), 328 VCCDA (power), 329 VCCA (power), 333 VCCIB0 (power), 339 VCCA (power), 344 VCCIB0 (power), 346 VCCDA (power), 347 TDO (hiz), 348 TDI (in), 349 TCK (in), 350 TMS (in), 351 ~{TRST} (in)
part D pins: 1 GND (power), 9 GND (power), 15 GND (power), 21 GND (power), 27 GND (power), 33 GND (power), 39 GND (power), 45 GND (power), 51 GND (power), 57 GND (power), 63 GND (power), 69 GND (power), 75 GND (power), 81 GND (power), 88 GND (power), 89 GND (power), 97 GND (power), 103 GND (power), 109 GND (power), 115 GND (power), 121 GND (power), 133 GND (power), 145 GND (power), 151 GND (power), 157 GND (power), 163 GND (power), 169 GND (power), 176 GND (power), 177 GND (power), 186 GND (power), 192 GND (power), 198 GND (power), 204 GND (power), 210 GND (power), 216 GND (power), 222 GND (power), 228 GND (power), 234 GND (power), 240 GND (power), 246 GND (power), 252 GND (power), 258 GND (power), 264 GND (power), 265 GND (power), 274 GND (power), 280 GND (power), 286 GND (power), 292 GND (power), 298 GND (power), 310 GND (power), 322 GND (power), 330 GND (power), 334 GND (power), 340 GND (power), 345 GND (power), 352 GND (power)
part E pins: 124 NC, 125 NC, 126 NC, 127 NC, 138 NC, 139 NC, 140 NC, 141 NC, 301 NC, 302 NC, 303 NC, 304 NC, 315 NC, 316 NC, 317 NC, 318 NC
part A text: Bank 0; Bank 3; Bank 1; Bank 2
part B text: Bank 4; Bank 7; Bank 5; Bank 6

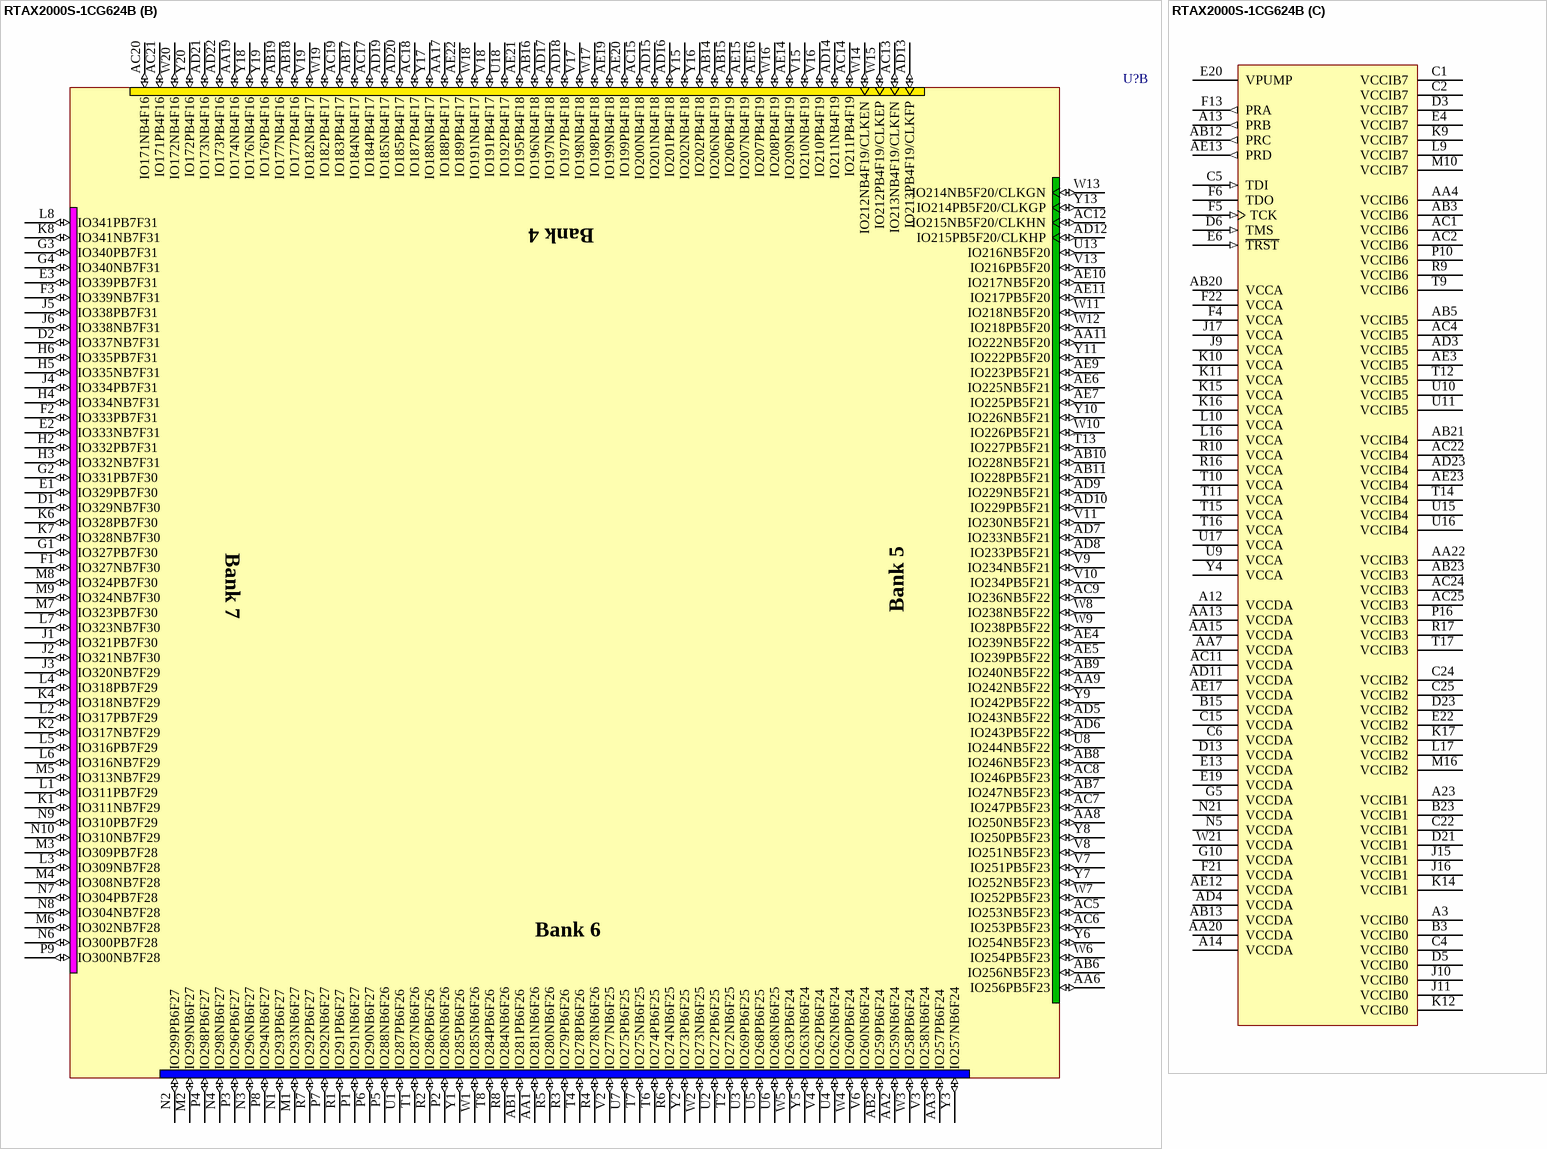
[diagram p133: symbol RTAX2000S-1CG624B]

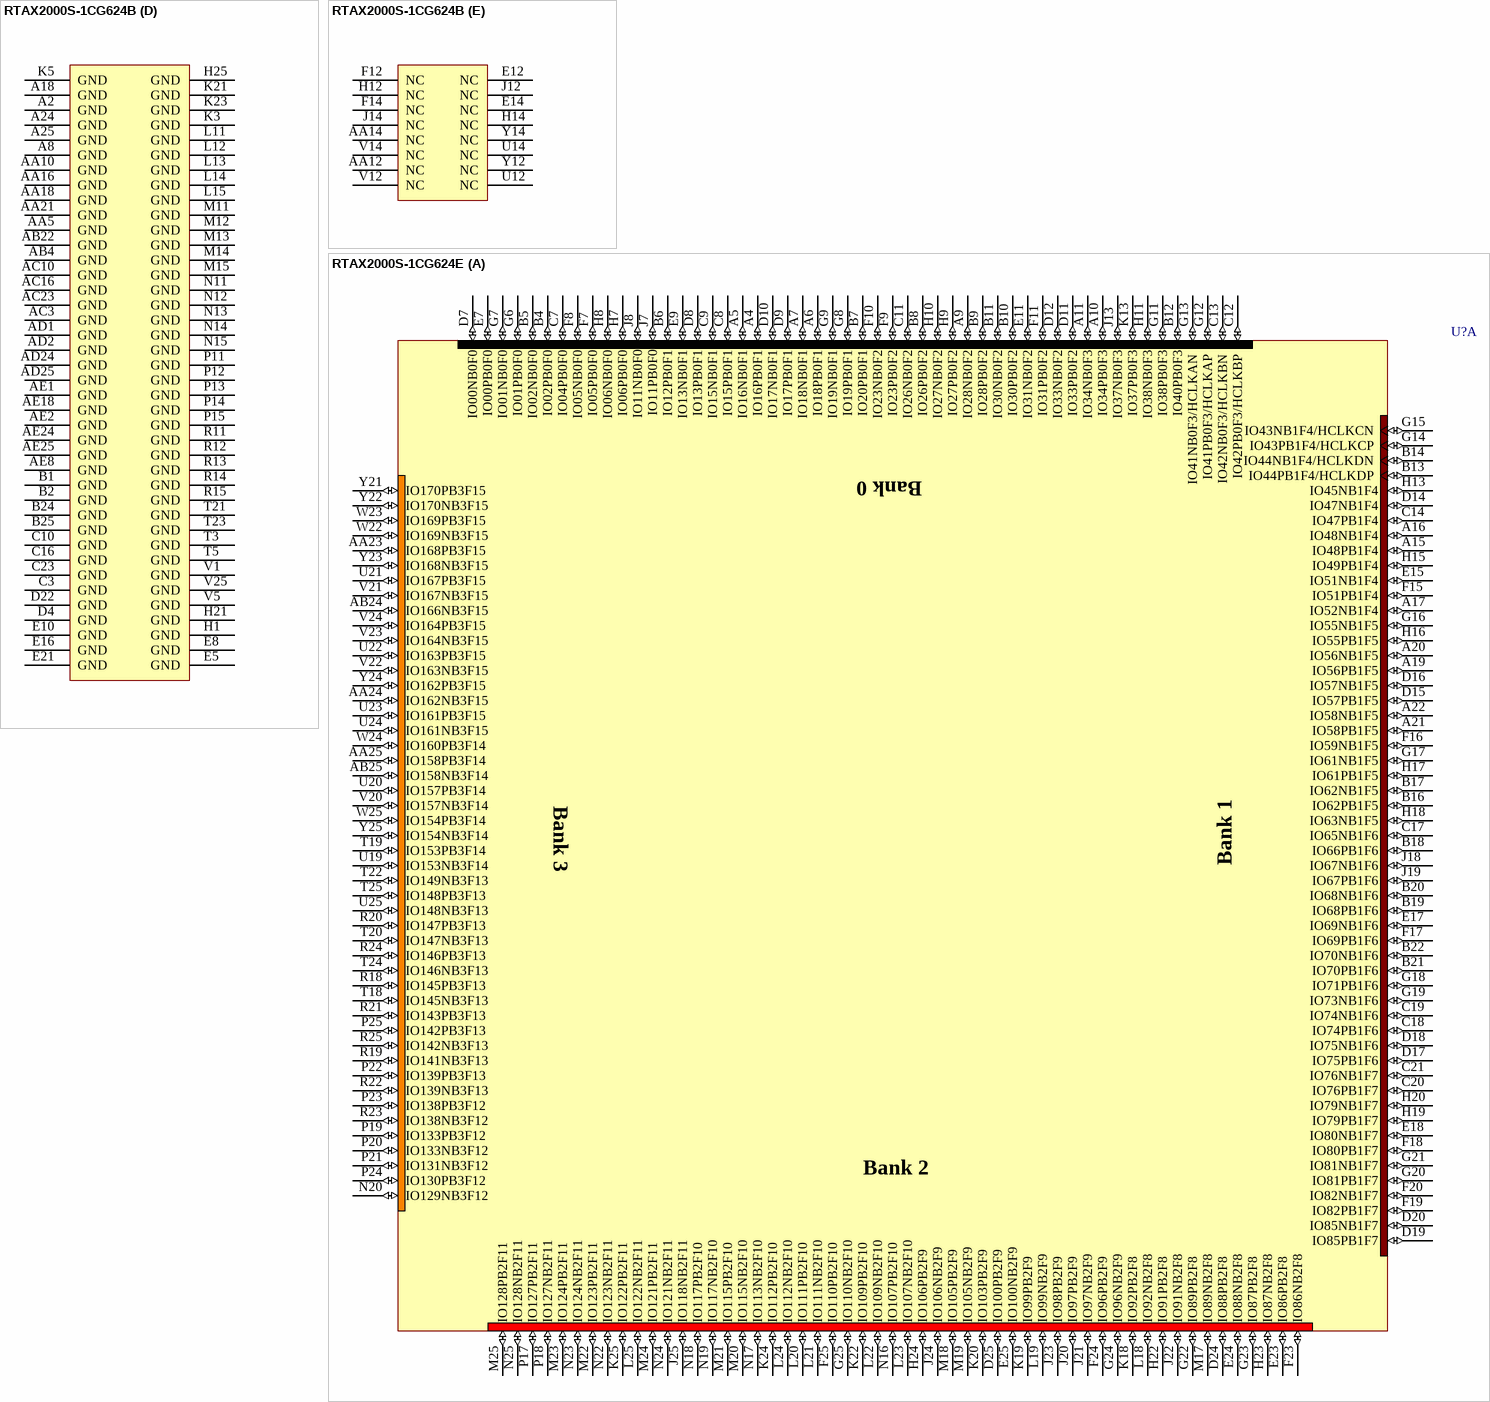
[diagram p134: symbols RTAX2000S-1CG624B to RTAX2000S-1CG624E]

## RTAX2000S-1CG624B
designator U?
RTAX-S RadTolerant FPGA, 2 Million Equivalent System Gates, 624-Pin CCGA, Speed Grade 1, MIL-STD-883 Class B; DatasheetVersion: v5.4, May-2009; PackageVersion: ver11.2, Nov-2009; PackageReference: CG624; PackageDescription: 624-Pin Ceramic Column Grid Array 1.27 mm Pitch; Code_JEDEC: MO-158-BE-01; ComponentLink1Description: Manufacturer URL; ComponentLink1URL: http://www.actel.com/; ComponentLink2Description: RTAX-S/SL RadTolerant Datasheet; ComponentLink2URL: http://www.actel.com/documents/RTAXS_DS.pdf; ComponentLink3Description: Package Mechanical Drawings; ComponentLink3URL: http://www.actel.com/documents/PckgMechDrwngs.pdf; ComponentLink4Description: RTAX-S/SL RadTolerant Documents; ComponentLink4URL: http://www.actel.com/products/milaero/rtaxs/docs.aspx
footprint CG624 (CGA, 624-Leads, Body 32.5x32.5mm, Pitch 1.27mm)
part A pins: A4 IO16PB0F1 (io), A5 IO16NB0F1 (io), A6 IO18PB0F1 (io), A7 IO18NB0F1 (io), A9 IO28NB0F2 (io), A10 IO34PB0F3 (io), A11 IO34NB0F3 (io), A15 IO48PB1F4 (io), A16 IO48NB1F4 (io), A17 IO52NB1F4 (io), A19 IO56PB1F5 (io), A20 IO56NB1F5 (io), A21 IO58PB1F5 (io), A22 IO58NB1F5 (io), AA23 IO168PB3F15 (io), AA24 IO162NB3F15 (io), AA25 IO158PB3F14 (io), AB24 IO166NB3F15 (io), AB25 IO158NB3F14 (io), B4 IO02PB0F0 (io), B5 IO02NB0F0 (io), B6 IO12PB0F1 (io), B7 IO20PB0F1 (io), B8 IO26PB0F2 (io), B9 IO28PB0F2 (io), B10 IO30PB0F2 (io), B11 IO30NB0F2 (io), B12 IO40PB0F3 (io), B13 IO44PB1F4/HCLKDP (io), B14 IO44NB1F4/HCLKDN (io), B16 IO62PB1F5 (io), B17 IO62NB1F5 (io), B18 IO66PB1F6 (io), B19 IO68PB1F6 (io), B20 IO68NB1F6 (io), B21 IO70PB1F6 (io), B22 IO70NB1F6 (io), C7 IO04PB0F0 (io), C8 IO15PB0F1 (io), C9 IO15NB0F1 (io), C11 IO26NB0F2 (io), C12 IO42PB0F3/HCLKBP (io), C13 IO42NB0F3/HCLKBN (io), C14 IO47PB1F4 (io), C17 IO65NB1F6 (io), C18 IO74PB1F6 (io), C19 IO74NB1F6 (io), C20 IO76PB1F7 (io), C21 IO76NB1F7 (io), D7 IO00NB0F0 (io), D8 IO13PB0F1 (io), D9 IO17PB0F1 (io), D10 IO17NB0F1 (io), D11 IO33PB0F2 (io), D12 IO33NB0F2 (io), D14 IO47NB1F4 (io), D15 IO57PB1F5 (io), D16 IO57NB1F5 (io), D17 IO75PB1F6 (io), D18 IO75NB1F6 (io), D19 IO85PB1F7 (io), D20 IO85NB1F7 (io), D24 IO88PB2F8 (io), D25 IO100PB2F9 (io), E7 IO00PB0F0 (io), E9 IO13NB0F1 (io), E11 IO31NB0F2 (io), E15 IO51NB1F4 (io), E17 IO69NB1F6 (io), E18 IO80NB1F7 (io), E23 IO86PB2F8 (io), E24 IO88NB2F8 (io), E25 IO100NB2F9 (io), F7 IO05PB0F0 (io), F8 IO05NB0F0 (io), F9 IO23PB0F2 (io), F10 IO23NB0F2 (io), F11 IO31PB0F2 (io), F15 IO51PB1F4 (io), F16 IO59NB1F5 (io), F17 IO69PB1F6 (io), F18 IO80PB1F7 (io), F19 IO82PB1F7 (io), F20 IO82NB1F7 (io), F23 IO86NB2F8 (io), F24 IO96PB2F9 (io), F25 IO110PB2F10 (io), G6 IO01PB0F0 (io), G7 IO01NB0F0 (io), G8 IO19PB0F1 (io), G9 IO19NB0F1 (io), G11 IO38PB0F3 (io), G12 IO41PB0F3/HCLKAP (io), G13 IO41NB0F3/HCLKAN (io), G14 IO43PB1F4/HCLKCP (io), G15 IO43NB1F4/HCLKCN (io), G16 IO55NB1F5 (io), G17 IO61NB1F5 (io), G18 IO71PB1F6 (io), G19 IO73NB1F6 (io), G20 IO81PB1F7 (io), G21 IO81NB1F7 (io), G22 IO89PB2F8 (io), G23 IO87PB2F8 (io), G24 IO96NB2F9 (io), G25 IO110NB2F10 (io), H7 IO06PB0F0 (io), H8 IO06NB0F0 (io), H9 IO27PB0F2 (io), H10 IO27NB0F2 (io), H11 IO38NB0F3 (io), H13 IO45NB1F4 (io), H15 IO49PB1F4 (io), H16 IO55PB1F5 (io), H17 IO61PB1F5 (io), H18 IO63NB1F5 (io), H19 IO79PB1F7 (io), H20 IO79NB1F7 (io), H22 IO91PB2F8 (io), H23 IO87NB2F8 (io), H24 IO106PB2F9 (io), J7 IO11PB0F0 (io), J8 IO11NB0F0 (io), J13 IO37NB0F3 (io), J18 IO67NB1F6 (io), J19 IO67PB1F6 (io), J20 IO97PB2F9 (io), J21 IO97NB2F9 (io), J22 IO91NB2F8 (io), J23 IO98PB2F9 (io), J24 IO106NB2F9 (io), J25 IO118NB2F11 (io), K13 IO37PB0F3 (io), K18 IO92PB2F8 (io), K19 IO99PB2F9 (io), K20 IO103PB2F9 (io), K22 IO109PB2F10 (io), K24 IO112PB2F10 (io), K25 IO122PB2F11 (io), L18 IO92NB2F8 (io), L19 IO99NB2F9 (io), L20 IO111PB2F10 (io), L21 IO111NB2F10 (io), L22 IO109NB2F10 (io), L23 IO107NB2F10 (io), L24 IO112NB2F10 (io), L25 IO122NB2F11 (io), M17 IO89NB2F8 (io), M18 IO105PB2F9 (io), M19 IO105NB2F9 (io), M20 IO115NB2F10 (io), M21 IO115PB2F10 (io), M22 IO123PB2F11 (io), M23 IO124PB2F11 (io), M24 IO121PB2F11 (io), M25 IO128PB2F11 (io), N16 IO107PB2F10 (io), N17 IO113NB2F10 (io), N18 IO117PB2F10 (io), N19 IO117NB2F10 (io), N20 IO129NB3F12 (io), N22 IO123NB2F11 (io), N23 IO124NB2F11 (io), N24 IO121NB2F11 (io), N25 IO128NB2F11 (io), P17 IO127PB2F11 (io), P18 IO127NB2F11 (io), P19 IO133PB3F12 (io), P20 IO133NB3F12 (io), P21 IO131NB3F12 (io), P22 IO139PB3F13 (io), P23 IO138PB3F12 (io), P24 IO130PB3F12 (io), P25 IO142PB3F13 (io), R18 IO145PB3F13 (io), R19 IO141NB3F13 (io), R20 IO147PB3F13 (io), R21 IO143PB3F13 (io), R22 IO139NB3F13 (io), R23 IO138NB3F12 (io), R24 IO146PB3F13 (io), R25 IO142NB3F13 (io), T18 IO145NB3F13 (io), T19 IO153PB3F14 (io), T20 IO147NB3F13 (io), T22 IO149NB3F13 (io), T24 IO146NB3F13 (io), T25 IO148PB3F13 (io), U19 IO153NB3F14 (io), U20 IO157PB3F14 (io), U21 IO167PB3F15 (io), U22 IO163PB3F15 (io), U23 IO161PB3F15 (io), U24 IO161NB3F15 (io), U25 IO148NB3F13 (io), V20 IO157NB3F14 (io), V21 IO167NB3F15 (io), V22 IO163NB3F15 (io), V23 IO164NB3F15 (io), V24 IO164PB3F15 (io), W22 IO169NB3F15 (io), W23 IO169PB3F15 (io), W24 IO160PB3F14 (io), W25 IO154PB3F14 (io), Y21 IO170PB3F15 (io), Y22 IO170NB3F15 (io), Y23 IO168NB3F15 (io), Y24 IO162PB3F15 (io), Y25 IO154NB3F14 (io)
part B pins: AA1 IO281NB6F26 (io), AA2 IO259NB6F24 (io), AA3 IO257PB6F24 (io), AA6 IO256PB5F23 (io), AA8 IO250NB5F23 (io), AA9 IO242NB5F22 (io), AA11 IO222NB5F20 (io), AA17 IO188PB4F17 (io), AA19 IO174NB4F16 (io), AB1 IO281PB6F26 (io), AB2 IO259PB6F24 (io), AB6 IO256NB5F23 (io), AB7 IO247NB5F23 (io), AB8 IO246NB5F23 (io), AB9 IO240NB5F22 (io), AB10 IO228NB5F21 (io), AB11 IO228PB5F21 (io), AB14 IO206NB4F19 (io), AB15 IO206PB4F19 (io), AB16 IO196NB4F18 (io), AB17 IO184NB4F17 (io), AB18 IO177PB4F16 (io), AB19 IO177NB4F16 (io), AC5 IO253NB5F23 (io), AC6 IO253PB5F23 (io), AC7 IO247PB5F23 (io), AC8 IO246PB5F23 (io), AC9 IO236NB5F22 (io), AC12 IO215NB5F20/CLKHN (io), AC13 IO213NB4F19/CLKFN (io), AC14 IO211PB4F19 (io), AC15 IO200NB4F18 (io), AC17 IO184PB4F17 (io), AC18 IO187PB4F17 (io), AC19 IO183PB4F17 (io), AC20 IO171NB4F16 (io), AC21 IO171PB4F16 (io), AD5 IO243NB5F22 (io), AD6 IO243PB5F22 (io), AD7 IO233NB5F21 (io), AD8 IO233PB5F21 (io), AD9 IO229NB5F21 (io), AD10 IO229PB5F21 (io), AD12 IO215PB5F20/CLKHP (io), AD13 IO213PB4F19/CLKFP (io), AD14 IO211NB4F19 (io), AD15 IO201NB4F18 (io), AD16 IO201PB4F18 (io), AD17 IO197NB4F18 (io), AD18 IO197PB4F18 (io), AD19 IO185NB4F17 (io), AD20 IO185PB4F17 (io), AD21 IO173NB4F16 (io), AD22 IO173PB4F16 (io), AE4 IO239NB5F22 (io), AE5 IO239PB5F22 (io), AE6 IO225NB5F21 (io), AE7 IO225PB5F21 (io), AE9 IO223PB5F21 (io), AE10 IO217NB5F20 (io), AE11 IO217PB5F20 (io), AE14 IO209NB4F19 (io), AE15 IO207NB4F19 (io), AE16 IO207PB4F19 (io), AE19 IO199NB4F18 (io), AE20 IO199PB4F18 (io), AE21 IO195PB4F18 (io), AE22 IO189PB4F17 (io), D1 IO329NB7F30 (io), D2 IO337NB7F31 (io), E1 IO329PB7F30 (io), E2 IO333NB7F31 (io), E3 IO339PB7F31 (io), F1 IO327NB7F30 (io), F2 IO333PB7F31 (io), F3 IO339NB7F31 (io), G1 IO327PB7F30 (io), G2 IO331PB7F30 (io), G3 IO340PB7F31 (io), G4 IO340NB7F31 (io), H2 IO332PB7F31 (io), H3 IO332NB7F31 (io), H4 IO334NB7F31 (io), H5 IO335NB7F31 (io), H6 IO335PB7F31 (io), J1 IO321PB7F30 (io), J2 IO321NB7F30 (io), J3 IO320NB7F29 (io), J4 IO334PB7F31 (io), J5 IO338PB7F31 (io), J6 IO338NB7F31 (io), K1 IO311NB7F29 (io), K2 IO317NB7F29 (io), K4 IO318NB7F29 (io), K6 IO328PB7F30 (io), K7 IO328NB7F30 (io), K8 IO341NB7F31 (io), L1 IO311PB7F29 (io), L2 IO317PB7F29 (io), L3 IO309NB7F28 (io), L4 IO318PB7F29 (io), L5 IO316PB7F29 (io), L6 IO316NB7F29 (io), L7 IO323NB7F30 (io), L8 IO341PB7F31 (io), M1 IO293NB6F27 (io), M2 IO299NB6F27 (io), M3 IO309PB7F28 (io), M4 IO308NB7F28 (io), M5 IO313NB7F29 (io), M6 IO302NB7F28 (io), M7 IO323PB7F30 (io), M8 IO324PB7F30 (io), M9 IO324NB7F30 (io), N1 IO293PB6F27 (io), N2 IO299PB6F27 (io), N3 IO296NB6F27 (io), N4 IO298NB6F27 (io), N6 IO300PB7F28 (io), N7 IO304PB7F28 (io), N8 IO304NB7F28 (io), N9 IO310PB7F29 (io), N10 IO310NB7F29 (io), P1 IO291NB6F27 (io), P2 IO286NB6F26 (io), P3 IO296PB6F27 (io), P4 IO298PB6F27 (io), P5 IO288NB6F26 (io), P6 IO290NB6F27 (io), P7 IO292NB6F27 (io), P8 IO294NB6F27 (io), P9 IO300NB7F28 (io), R1 IO291PB6F27 (io), R2 IO286PB6F26 (io), R3 IO279PB6F26 (io), R4 IO278NB6F26 (io), R5 IO280NB6F26 (io), R6 IO274NB6F25 (io), R7 IO292PB6F27 (io), R8 IO284NB6F26 (io), T1 IO287NB6F26 (io), T2 IO272NB6F25 (io), T4 IO278PB6F26 (io), T6 IO274PB6F25 (io), T7 IO275NB6F25 (io), T8 IO284PB6F26 (io), T13 IO227PB5F21 (io), U1 IO287PB6F26 (io), U2 IO272PB6F25 (io), U3 IO269PB6F25 (io), U4 IO262NB6F24 (io), U5 IO268PB6F25 (io), U6 IO268NB6F25 (io), U7 IO275PB6F25 (io), U8 IO244NB5F22 (io), U13 IO216NB5F20 (io), U18 IO192PB4F17 (io), V2 IO277NB6F25 (io), V3 IO258NB6F24 (io), V4 IO262PB6F24 (io), V6 IO260NB6F24 (io), V7 IO251PB5F23 (io), V8 IO251NB5F23 (io), V9 IO234NB5F21 (io), V10 IO234PB5F21 (io), V11 IO230NB5F21 (io), V13 IO216PB5F20 (io), V15 IO210NB4F19 (io), V16 IO210PB4F19 (io), V17 IO198NB4F18 (io), V18 IO191PB4F17 (io), V19 IO182NB4F17 (io), W1 IO285NB6F26 (io), W2 IO273NB6F25 (io), W3 IO258PB6F24 (io), W4 IO260PB6F24 (io), W5 IO263PB6F24 (io), W6 IO254PB5F23 (io), W7 IO252PB5F23 (io), W8 IO238NB5F22 (io), W9 IO238PB5F22 (io), W10 IO226PB5F21 (io), W11 IO218NB5F20 (io), W12 IO218PB5F20 (io), W13 IO214NB5F20/CLKGN (io), W14 IO212NB4F19/CLKEN (io), W15 IO212PB4F19/CLKEP (io), W16 IO208PB4F19 (io), W17 IO198PB4F18 (io), W18 IO191NB4F17 (io), W19 IO182PB4F17 (io), W20 IO172NB4F16 (io), Y1 IO285PB6F26 (io), Y2 IO273PB6F25 (io), Y3 IO257NB6F24 (io), Y5 IO263NB6F24 (io), Y6 IO254NB5F23 (io), Y7 IO252NB5F23 (io), Y8 IO250PB5F23 (io), Y9 IO242PB5F22 (io), Y10 IO226NB5F21 (io), Y11 IO222PB5F20 (io), Y13 IO214PB5F20/CLKGP (io), Y15 IO202NB4F18 (io), Y16 IO202PB4F18 (io), Y17 IO188NB4F17 (io), Y18 IO176NB4F16 (io), Y19 IO176PB4F16 (io), Y20 IO172PB4F16 (io)
part C pins: A3 VCCIB0 (power), A12 VCCDA (power), A13 PRB (out), A14 VCCDA (power), A23 VCCIB1 (power), AA4 VCCIB6 (power), AA7 VCCDA (power), AA13 VCCDA (power), AA15 VCCDA (power), AA20 VCCDA (power), AA22 VCCIB3 (power), AB3 VCCIB6 (power), AB5 VCCIB5 (power), AB12 PRC (out), AB13 VCCDA (power), AB20 VCCA (power), AB21 VCCIB4 (power), AB23 VCCIB3 (power), AC1 VCCIB6 (power), AC2 VCCIB6 (power), AC4 VCCIB5 (power), AC11 VCCDA (power), AC22 VCCIB4 (power), AC24 VCCIB3 (power), AC25 VCCIB3 (power), AD3 VCCIB5 (power), AD4 VCCDA (power), AD11 VCCDA (power), AD23 VCCIB4 (power), AE3 VCCIB5 (power), AE12 VCCDA (power), AE13 PRD (out), AE17 VCCDA (power), AE23 VCCIB4 (power), B3 VCCIB0 (power), B15 VCCDA (power), B23 VCCIB1 (power), C1 VCCIB7 (power), C2 VCCIB7 (power), C4 VCCIB0 (power), C5 TDI (in), C6 VCCDA (power), C15 VCCDA (power), C22 VCCIB1 (power), C24 VCCIB2 (power), C25 VCCIB2 (power), D3 VCCIB7 (power), D5 VCCIB0 (power), D6 TMS (in), D13 VCCDA (power), D21 VCCIB1 (power), D23 VCCIB2 (power), E4 VCCIB7 (power), E6 ~{TRST} (in), E13 VCCDA (power), E19 VCCDA (power), E20 VPUMP (power), E22 VCCIB2 (power), F4 VCCA (power), F5 TCK (in), F6 TDO (hiz), F13 PRA (out), F21 VCCDA (power), F22 VCCA (power), G5 VCCDA (power), G10 VCCDA (power), J9 VCCA (power), J10 VCCIB0 (power), J11 VCCIB0 (power), J15 VCCIB1 (power), J16 VCCIB1 (power), J17 VCCA (power), K9 VCCIB7 (power), K10 VCCA (power), K11 VCCA (power), K12 VCCIB0 (power), K14 VCCIB1 (power), K15 VCCA (power), K16 VCCA (power), K17 VCCIB2 (power), L9 VCCIB7 (power), L10 VCCA (power), L16 VCCA (power), L17 VCCIB2 (power), M10 VCCIB7 (power), M16 VCCIB2 (power), N5 VCCDA (power), N21 VCCDA (power), P10 VCCIB6 (power), P16 VCCIB3 (power), R9 VCCIB6 (power), R10 VCCA (power), R16 VCCA (power), R17 VCCIB3 (power), T9 VCCIB6 (power), T10 VCCA (power), T11 VCCA (power), T12 VCCIB5 (power), T14 VCCIB4 (power), T15 VCCA (power), T16 VCCA (power), T17 VCCIB3 (power), U9 VCCA (power), U10 VCCIB5 (power), U11 VCCIB5 (power), U15 VCCIB4 (power), U16 VCCIB4 (power), U17 VCCA (power), W21 VCCDA (power), Y4 VCCA (power)
part D pins: A2 GND (power), A8 GND (power), A18 GND (power), A24 GND (power), A25 GND (power), AA5 GND (power), AA10 GND (power), AA16 GND (power), AA18 GND (power), AA21 GND (power), AB4 GND (power), AB22 GND (power), AC3 GND (power), AC10 GND (power), AC16 GND (power), AC23 GND (power), AD1 GND (power), AD2 GND (power), AD24 GND (power), AD25 GND (power), AE1 GND (power), AE2 GND (power), AE8 GND (power), AE18 GND (power), AE24 GND (power), AE25 GND (power), B1 GND (power), B2 GND (power), B24 GND (power), B25 GND (power), C3 GND (power), C10 GND (power), C16 GND (power), C23 GND (power), D4 GND (power), D22 GND (power), E5 GND (power), E8 GND (power), E10 GND (power), E16 GND (power), E21 GND (power), H1 GND (power), H21 GND (power), H25 GND (power), K3 GND (power), K5 GND (power), K21 GND (power), K23 GND (power), L11 GND (power), L12 GND (power), L13 GND (power), L14 GND (power), L15 GND (power), M11 GND (power), M12 GND (power), M13 GND (power), M14 GND (power), M15 GND (power), N11 GND (power), N12 GND (power), N13 GND (power), N14 GND (power), N15 GND (power), P11 GND (power), P12 GND (power), P13 GND (power), P14 GND (power), P15 GND (power), R11 GND (power), R12 GND (power), R13 GND (power), R14 GND (power), R15 GND (power), T3 GND (power), T5 GND (power), T21 GND (power), T23 GND (power), V1 GND (power), V5 GND (power), V25 GND (power)
part E pins: AA12 NC, AA14 NC, E12 NC, E14 NC, F12 NC, F14 NC, H12 NC, H14 NC, J12 NC, J14 NC, U12 NC, U14 NC, V12 NC, V14 NC, Y12 NC, Y14 NC
part A text: Bank 0; Bank 3; Bank 1; Bank 2
part B text: Bank 4; Bank 7; Bank 5; Bank 6

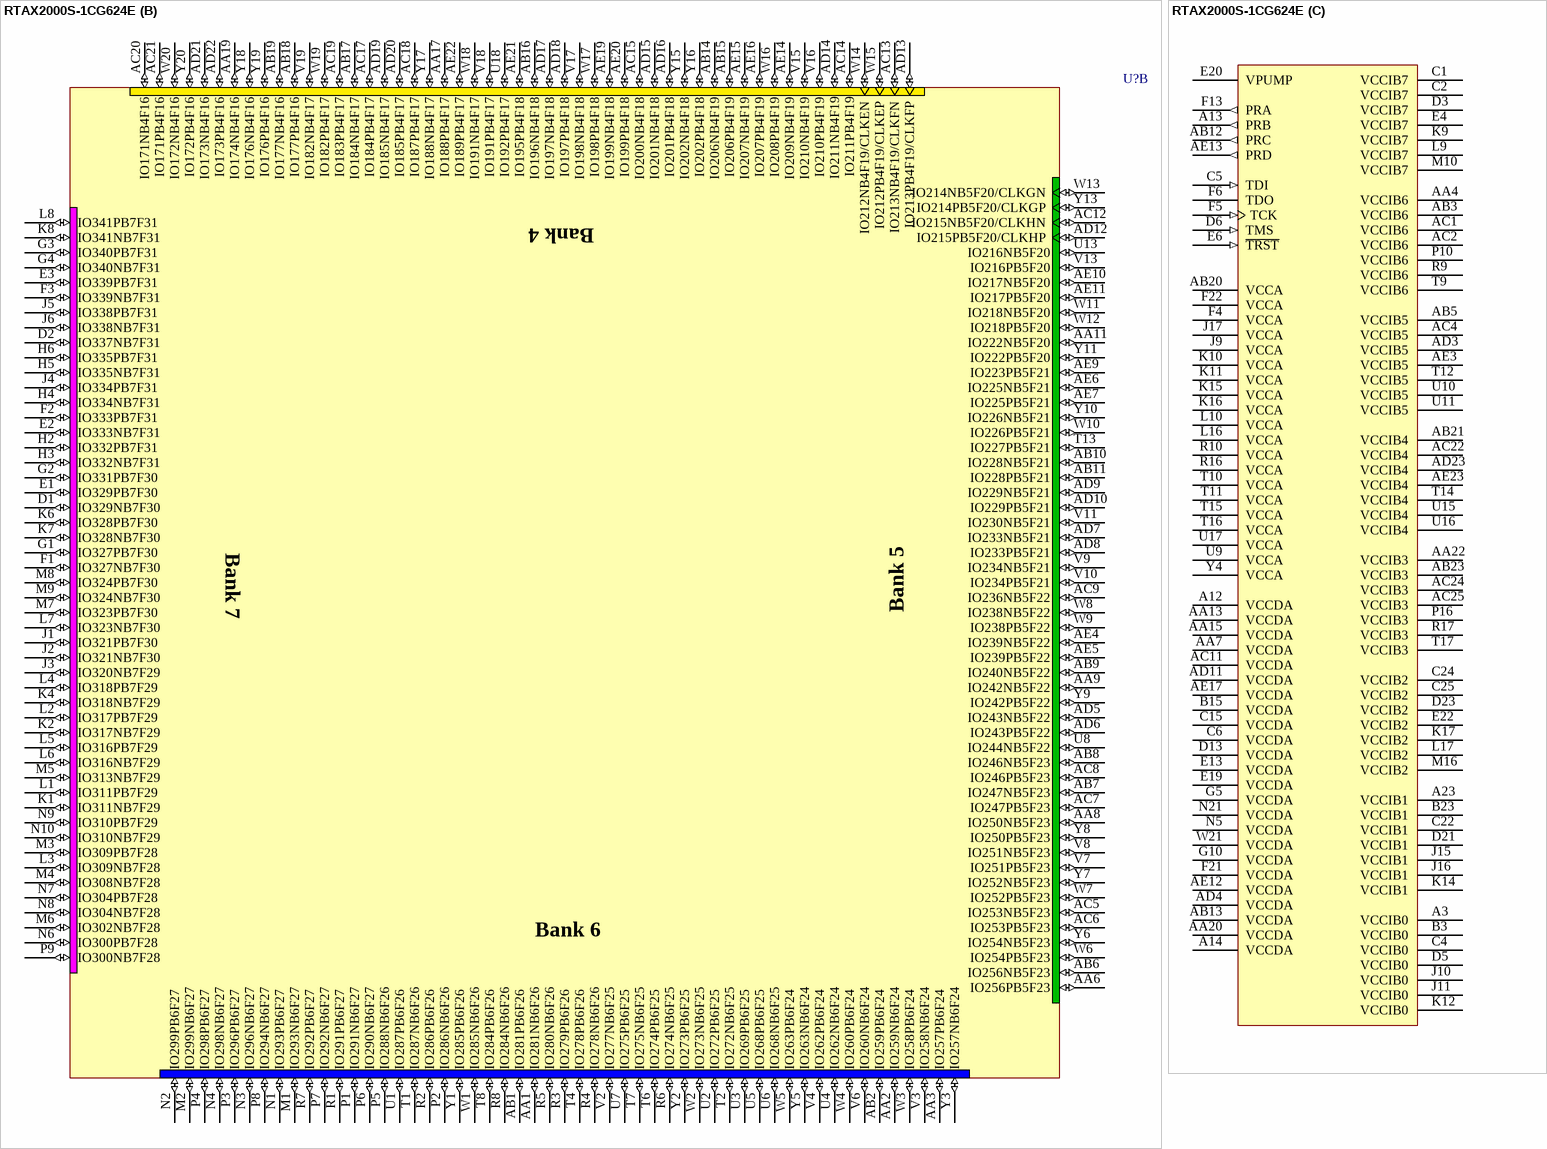
[diagram p135: symbol RTAX2000S-1CG624E]

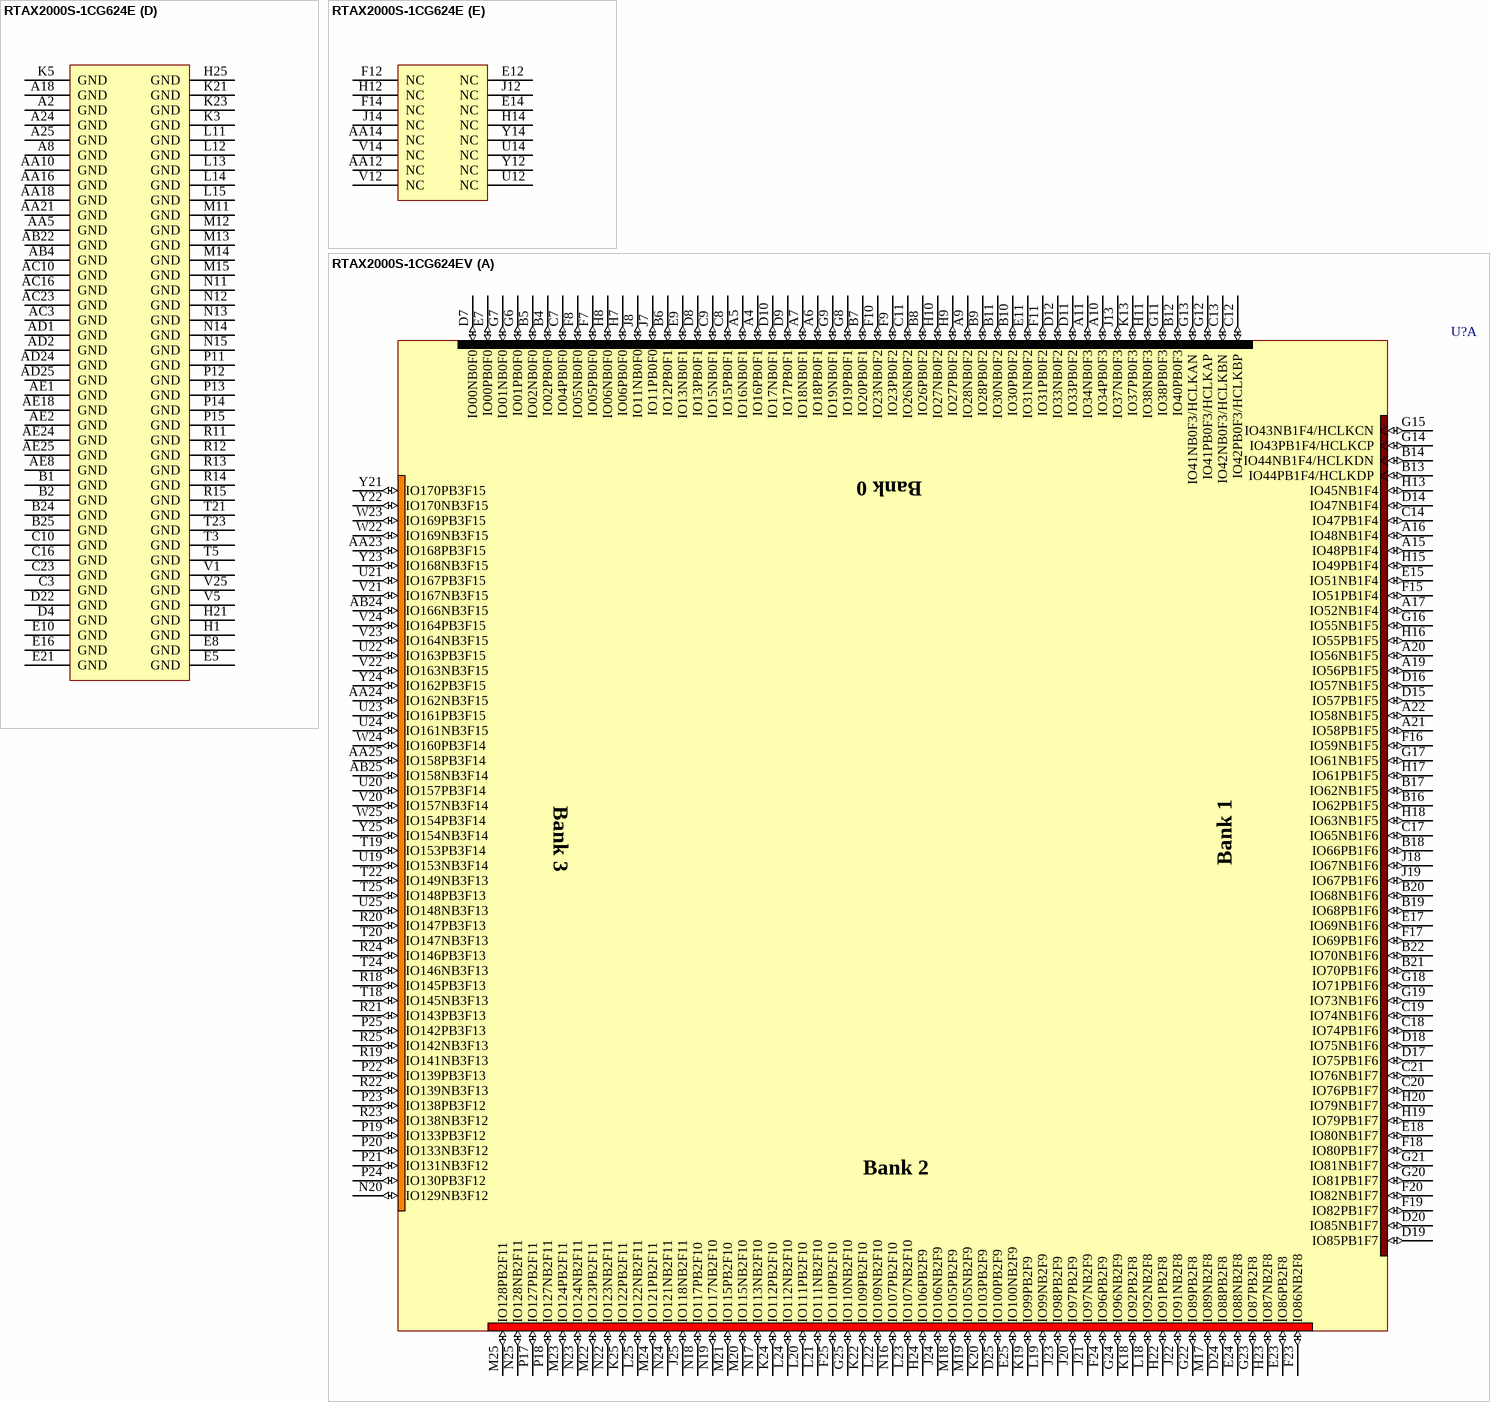
[diagram p136: symbols RTAX2000S-1CG624E to RTAX2000S-1CG624EV]